# Altium schematic symbol library PROC101D_SCH_With_Design_Updates..Notes_V1.0_Library.SchLib: 131 symbols
Pins are listed as number, name and electrical type; pins without a type are passive.

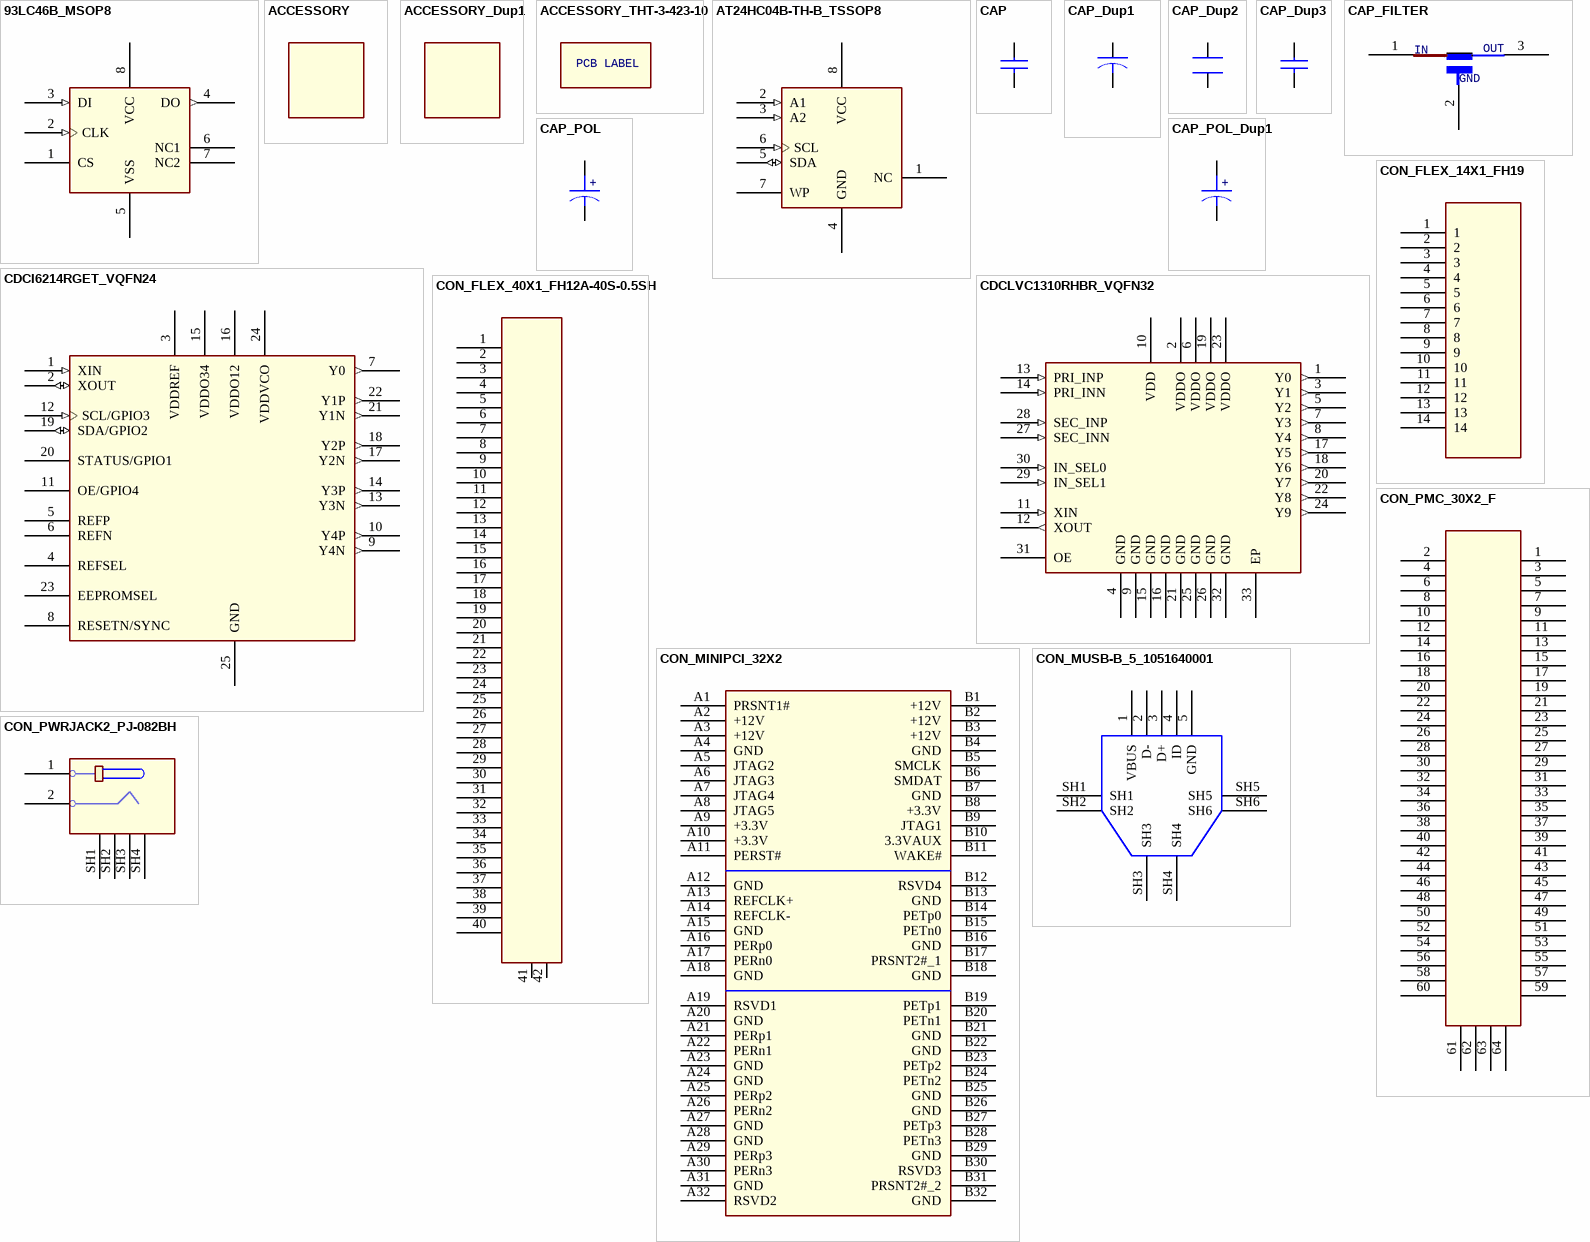
[diagram p0: symbols 93LC46B_MSOP8 to CON_PWRJACK2_PJ-082BH]

## 93LC46B_MSOP8
designator U?
pins: 1 CS, 2 CLK (in), 3 DI (in), 4 DO (out), 5 VSS (power), 6 NC1, 7 NC2, 8 VCC (power)

## ACCESSORY
designator ACC?

## ACCESSORY_Dup1
designator ACC?

## ACCESSORY_THT-3-423-10
designator LBL?
text: PCB LABEL

## AT24HC04B-TH-B_TSSOP8
designator U?
pins: 1 NC, 2 A1 (in), 3 A2 (in), 4 GND (power), 5 SDA (io), 6 SCL (in), 7 WP, 8 VCC (power)

## CAP
designator C?
pins: 1, 2

## CAP_Dup1
designator C?
pins: 1, 2

## CAP_Dup2
designator C?
footprint CAP0402N
pins: 1, 2

## CAP_Dup3
designator C?
pins: 1, 2

## CAP_FILTER
designator FL?
pins: 1 IN, 2 GND1 (power), 3 OUT
text: GND

## CAP_POL
designator C?
pins: 1, 2
text: +

## CAP_POL_Dup1
designator C?
pins: 1, 2
text: +

## CDCI6214RGET_VQFN24
designator U?
pins: 1 XIN (in), 2 XOUT (io), 3 VDDREF (power), 4 REFSEL, 5 REFP, 6 REFN, 7 Y0 (out), 8 RESETN/SYNC, 9 Y4N (out), 10 Y4P (out), 11 OE/GPIO4, 12 SCL/GPIO3 (in), 13 Y3N (out), 14 Y3P (out), 15 VDDO34 (power), 16 VDDO12 (power), 17 Y2N (out), 18 Y2P (out), 19 SDA/GPIO2 (io), 20 STATUS/GPIO1, 21 Y1N (out), 22 Y1P (out), 23 EEPROMSEL, 24 VDDVCO (power), 25 GND (power)

## CDCLVC1310RHBR_VQFN32
designator U?
pins: 1 Y0 (out), 2 VDDO (power), 3 Y1 (out), 4 GND (power), 5 Y2 (out), 6 VDDO (power), 7 Y3 (out), 8 Y4 (out), 9 GND (power), 10 VDD (power), 11 XIN (in), 12 XOUT (out), 13 PRI_INP (in), 14 PRI_INN (in), 15 GND (power), 16 GND (power), 17 Y5 (out), 18 Y6 (out), 19 VDDO (power), 20 Y7 (out), 21 GND (power), 22 Y8 (out), 23 VDDO (power), 24 Y9 (out), 25 GND (power), 26 GND (power), 27 SEC_INN (in), 28 SEC_INP (in), 29 IN_SEL1 (in), 30 IN_SEL0 (in), 31 OE, 32 GND (power), 33 EP (power)

## CON_FLEX_14X1_FH19
designator J?
pins: 1, 2, 3, 4, 5, 6, 7, 8, 9, 10, 11, 12, 13, 14

## CON_FLEX_40X1_FH12A-40S-0.5SH
designator J?
pins: 1, 2, 3, 4, 5, 6, 7, 8, 9, 10, 11, 12, 13, 14, 15, 16, 17, 18, 19, 20, 21, 22, 23, 24, 25, 26, 27, 28, 29, 30, 31, 32, 33, 34, 35, 36, 37, 38, 39, 40, 41, 42

## CON_MINIPCI_32X2
designator J?
pins: A1 PRSNT1#, A2 +12V (power), A3 +12V (power), A4 GND (power), A5 JTAG2, A6 JTAG3, A7 JTAG4, A8 JTAG5, A9 +3.3V (power), A10 +3.3V (power), A11 PERST#, A12 GND (power), A13 REFCLK+, A14 REFCLK-, A15 GND (power), A16 PERp0, A17 PERn0, A18 GND (power), A19 RSVD1, A20 GND (power), A21 PERp1, A22 PERn1, A23 GND (power), A24 GND (power), A25 PERp2, A26 PERn2, A27 GND (power), A28 GND (power), A29 PERp3, A30 PERn3, A31 GND (power), A32 RSVD2, B1 +12V (power), B2 +12V (power), B3 +12V (power), B4 GND (power), B5 SMCLK, B6 SMDAT, B7 GND (power), B8 +3.3V (power), B9 JTAG1, B10 3.3VAUX, B11 WAKE#, B12 RSVD4, B13 GND (power), B14 PETp0, B15 PETn0, B16 GND (power), B17 PRSNT2#_1, B18 GND (power), B19 PETp1, B20 PETn1, B21 GND (power), B22 GND (power), B23 PETp2, B24 PETn2, B25 GND (power), B26 GND (power), B27 PETp3, B28 PETn3, B29 GND (power), B30 RSVD3, B31 PRSNT2#_2, B32 GND (power)

## CON_MUSB-B_5_1051640001
designator J?
pins: 1 VBUS, 2 D-, 3 D+, 4 ID, 5 GND (power), SH1, SH2, SH3, SH4, SH5, SH6

## CON_PMC_30X2_F
designator J?
pins: 1, 2, 3, 4, 5, 6, 7, 8, 9, 10, 11, 12, 13, 14, 15, 16, 17, 18, 19, 20, 21, 22, 23, 24, 25, 26, 27, 28, 29, 30, 31, 32, 33, 34, 35, 36, 37, 38, 39, 40, 41, 42, 43, 44, 45, 46, 47, 48, 49, 50, 51, 52, 53, 54, 55, 56, 57, 58, 59, 60, 61, 62, 63, 64

## CON_PWRJACK2_PJ-082BH
designator J?
pins: 1, 2, SH1, SH2, SH3, SH4

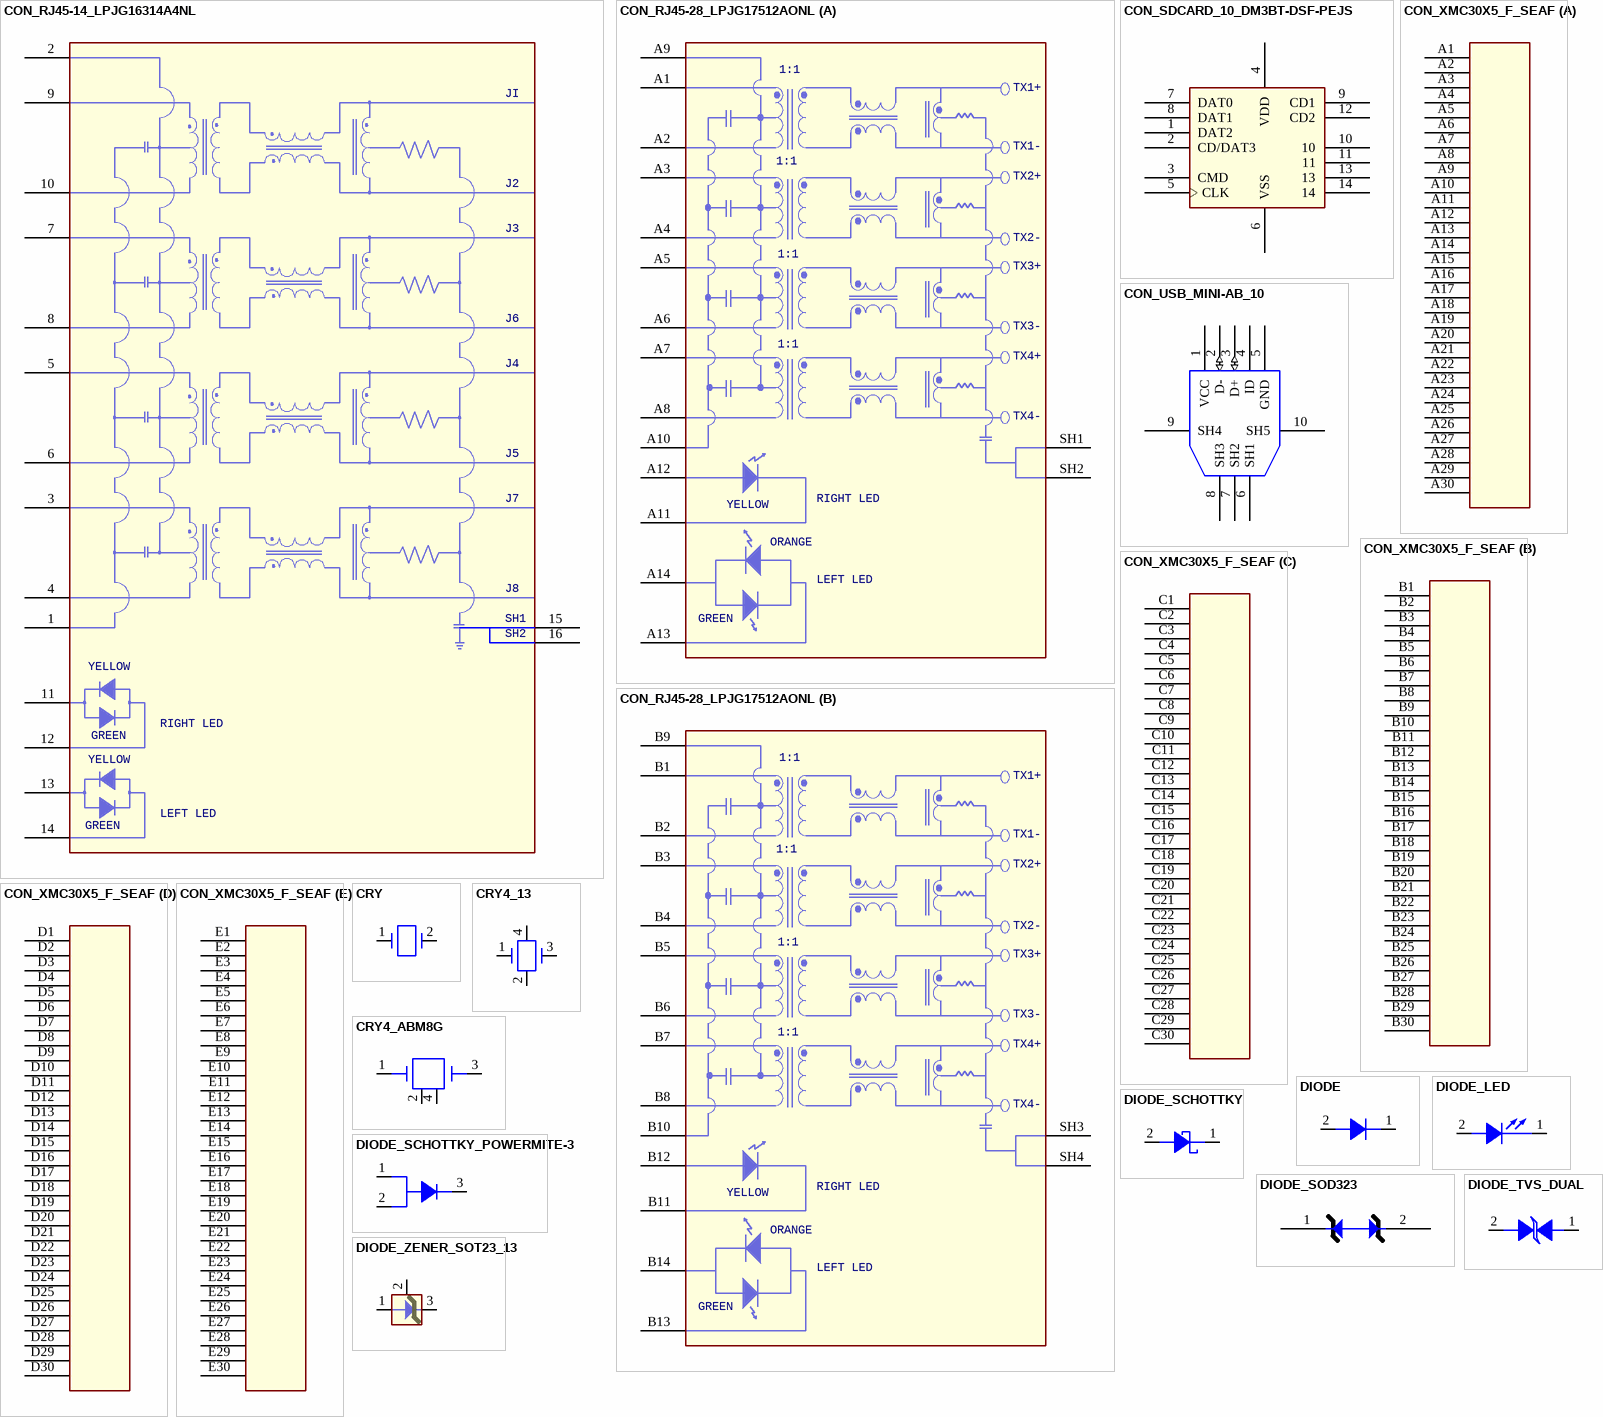
[diagram p1: symbols CON_RJ45-14_LPJG16314A4NL to DIODE_ZENER_SOT23_13]

## CON_RJ45-14_LPJG16314A4NL
designator J?
pins: 1 CH-GND, 2 VCC, 3 MX3+, 4 MX3-, 5 MX2+, 6 MX2-, 7 MX1+, 8 MX1-, 9 MX0+, 10 MX0-, 11, 12, 13, 14, 15 SH1, 16 SH2
text: JI; J2; J3; J6; J4; J5; J7; J8; YELLOW; RIGHT LED; GREEN; LEFT LED

## CON_RJ45-28_LPJG17512AONL
designator J?
part A pins: A1 TD1+_1, A2 TD1-_1, A3 TD2+_1, A4 TD2-_1, A5 TD3+_1, A6 TD3-_1, A7 TD4+_1, A8 TD4-_1, A9 VCC (power), A10 GND (power), A11, A12, A13, A14, SH1, SH2
part B pins: B1 TD1+_2, B2 TD1-_2, B3 TD2+_2, B4 TD2-_2, B5 TD3+_2, B6 TD3-_2, B7 TD4+_2, B8 TD4-_2, B9 VCC (power), B10 GND (power), B11, B12, B13, B14, SH3, SH4
part A text: 1:1; TX1+; TX1-; TX2+; TX2-; TX3+; TX3-; TX4+; TX4-; RIGHT LED; YELLOW; ORANGE; LEFT LED; GREEN
part B text: 1:1; TX1+; TX1-; TX2+; TX2-; TX3+; TX3-; TX4+; TX4-; RIGHT LED; YELLOW; ORANGE; LEFT LED; GREEN

## CON_SDCARD_10_DM3BT-DSF-PEJS
designator J?
pins: 1 DAT2, 2 CD/DAT3, 3 CMD, 4 VDD (power), 5 CLK, 6 VSS (power), 7 DAT0, 8 DAT1, 9 CD1, 10, 11, 12 CD2, 13, 14

## CON_USB_MINI-AB_10
designator J?
pins: 1 VCC (power), 2 D- (io), 3 D+ (io), 4 ID, 5 GND (power), 6 SH1 (power), 7 SH2 (power), 8 SH3 (power), 9 SH4 (power), 10 SH5 (power)

## CON_XMC30X5_F_SEAF
designator J?
part A pins: A1, A2, A3, A4, A5, A6, A7, A8, A9, A10, A11, A12, A13, A14, A15, A16, A17, A18, A19, A20, A21, A22, A23, A24, A25, A26, A27, A28, A29, A30
part B pins: B1, B2, B3, B4, B5, B6, B7, B8, B9, B10, B11, B12, B13, B14, B15, B16, B17, B18, B19, B20, B21, B22, B23, B24, B25, B26, B27, B28, B29, B30
part C pins: C1, C2, C3, C4, C5, C6, C7, C8, C9, C10, C11, C12, C13, C14, C15, C16, C17, C18, C19, C20, C21, C22, C23, C24, C25, C26, C27, C28, C29, C30
part D pins: D1, D2, D3, D4, D5, D6, D7, D8, D9, D10, D11, D12, D13, D14, D15, D16, D17, D18, D19, D20, D21, D22, D23, D24, D25, D26, D27, D28, D29, D30
part E pins: E1, E2, E3, E4, E5, E6, E7, E8, E9, E10, E11, E12, E13, E14, E15, E16, E17, E18, E19, E20, E21, E22, E23, E24, E25, E26, E27, E28, E29, E30

## CRY
designator Y?
pins: 1, 2

## CRY4_13
designator Y?
pins: 1, 2, 3, 4

## CRY4_ABM8G
designator Y?
pins: 1, 2 GND1 (power), 3, 4 GND2 (power)

## DIODE
designator D?
pins: 1 K, 2 A

## DIODE_LED
designator LD?
pins: 1 CATHODE, 2 ANODE

## DIODE_SCHOTTKY
designator D?
pins: 1 CATHODE, 2 ANODE

## DIODE_SCHOTTKY_POWERMITE-3
designator D?
pins: 1 A1, 2 A2, 3 K

## DIODE_SOD323
designator D?
pins: 1, 2

## DIODE_TVS_DUAL
designator D?
pins: 1 CATHODE, 2 ANODE

## DIODE_ZENER_SOT23_13
designator D?
pins: 1 A, 2 NC, 3 C

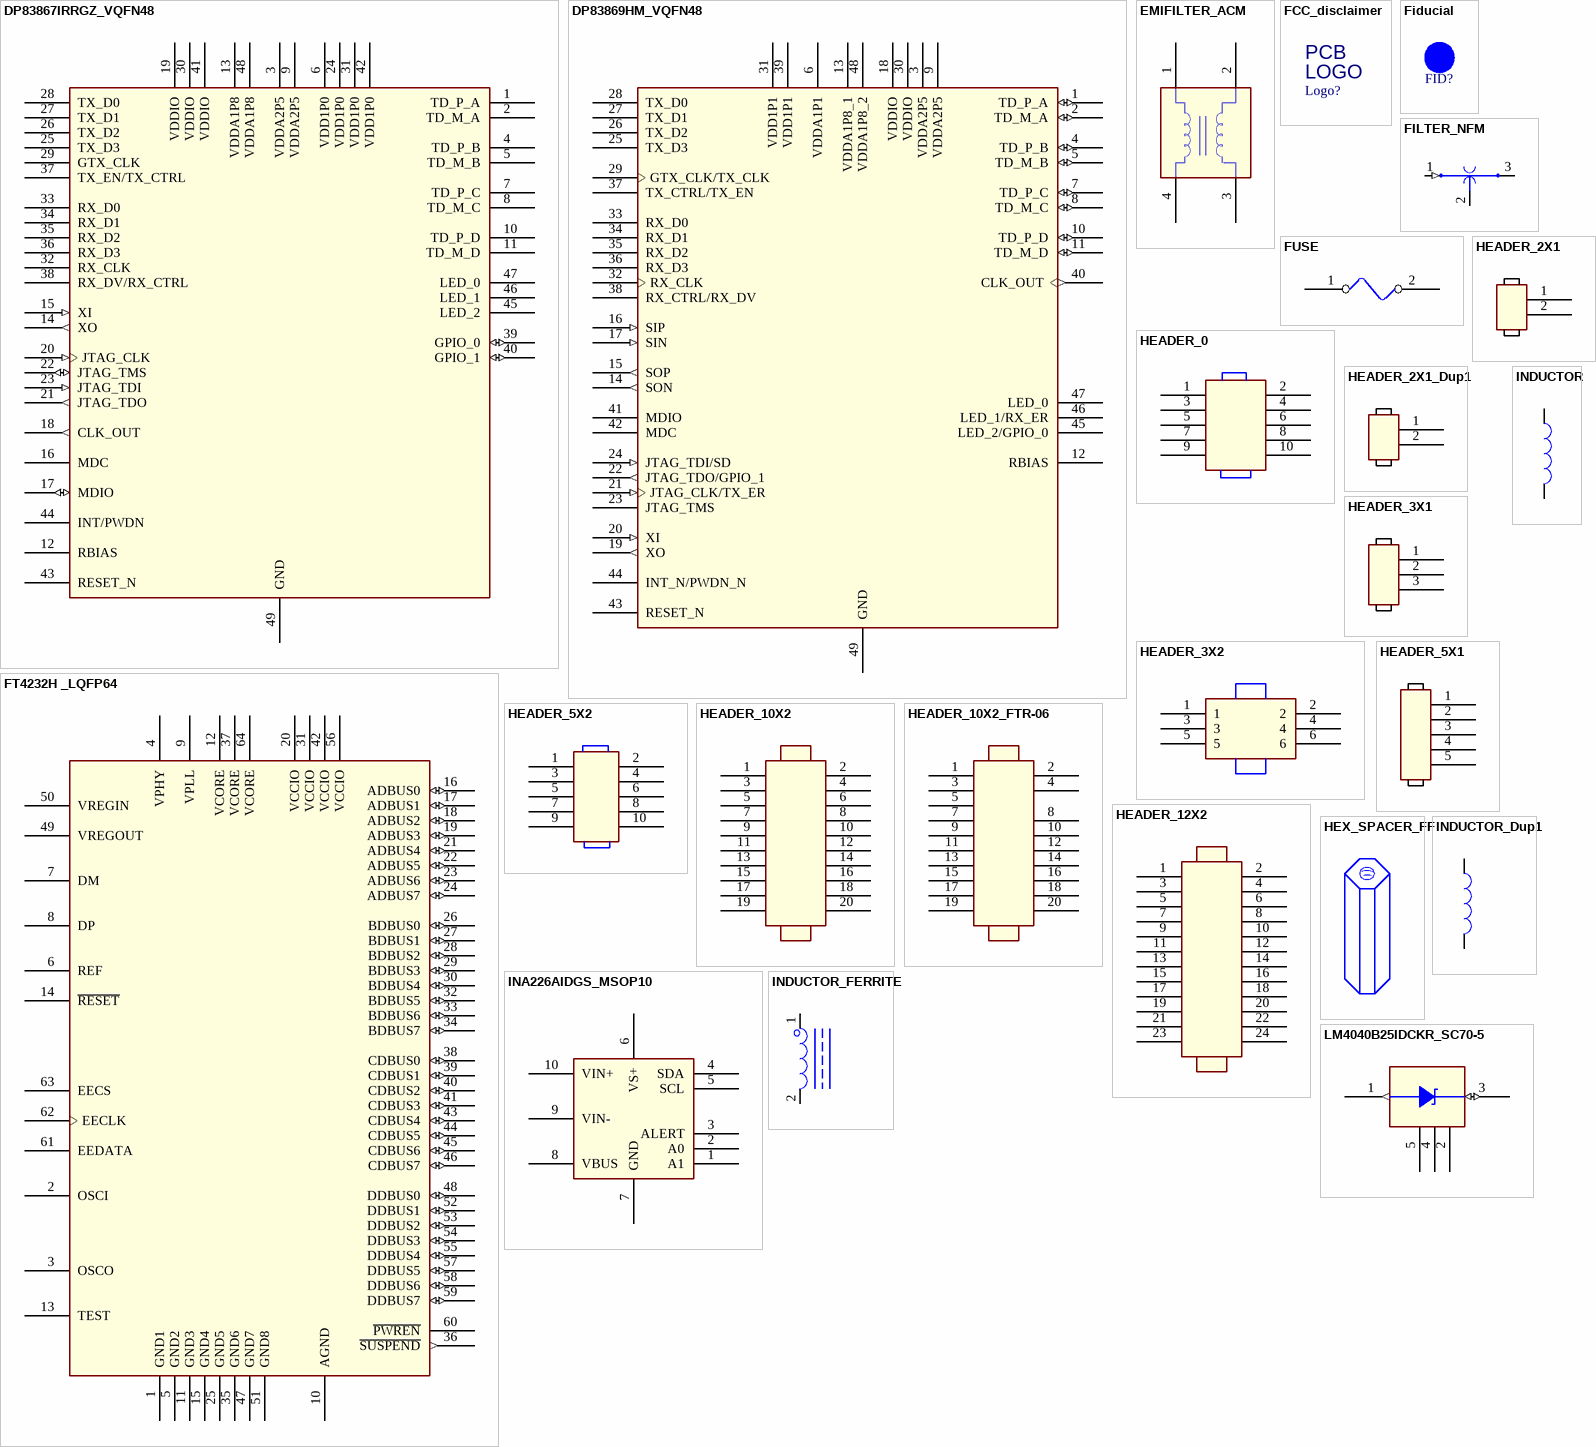
[diagram p2: symbols DP83867IRRGZ_VQFN48 to LM4040B25IDCKR_SC70-5]

## DP83867IRRGZ_VQFN48
designator U?
pins: 1 TD_P_A, 2 TD_M_A, 3 VDDA2P5 (power), 4 TD_P_B, 5 TD_M_B, 6 VDD1P0 (power), 7 TD_P_C, 8 TD_M_C, 9 VDDA2P5 (power), 10 TD_P_D, 11 TD_M_D, 12 RBIAS, 13 VDDA1P8 (power), 14 XO (out), 15 XI (in), 16 MDC, 17 MDIO (io), 18 CLK_OUT (out), 19 VDDIO (power), 20 JTAG_CLK (in), 21 JTAG_TDO (out), 22 JTAG_TMS (io), 23 JTAG_TDI (in), 24 VDD1P0 (power), 25 TX_D3, 26 TX_D2, 27 TX_D1, 28 TX_D0, 29 GTX_CLK, 30 VDDIO (power), 31 VDD1P0 (power), 32 RX_CLK, 33 RX_D0, 34 RX_D1, 35 RX_D2, 36 RX_D3, 37 TX_EN/TX_CTRL, 38 RX_DV/RX_CTRL, 39 GPIO_0 (io), 40 GPIO_1 (io), 41 VDDIO (power), 42 VDD1P0 (power), 43 RESET_N, 44 INT/PWDN, 45 LED_2, 46 LED_1, 47 LED_0, 48 VDDA1P8 (power), 49 GND (power)

## DP83869HM_VQFN48
designator U?
pins: 1 TD_P_A (io), 2 TD_M_A (io), 3 VDDA2P5 (power), 4 TD_P_B (io), 5 TD_M_B (io), 6 VDDA1P1 (power), 7 TD_P_C (io), 8 TD_M_C (io), 9 VDDA2P5 (power), 10 TD_P_D (io), 11 TD_M_D (io), 12 RBIAS, 13 VDDA1P8_1 (power), 14 SON (out), 15 SOP (out), 16 SIP (in), 17 SIN (in), 18 VDDIO (power), 19 XO (out), 20 XI (in), 21 JTAG_CLK/TX_ER (in), 22 JTAG_TDO/GPIO_1 (out), 23 JTAG_TMS, 24 JTAG_TDI/SD (in), 25 TX_D3, 26 TX_D2, 27 TX_D1, 28 TX_D0, 29 GTX_CLK/TX_CLK, 30 VDDIO (power), 31 VDD1P1 (power), 32 RX_CLK, 33 RX_D0, 34 RX_D1, 35 RX_D2, 36 RX_D3, 37 TX_CTRL/TX_EN, 38 RX_CTRL/RX_DV, 39 VDD1P1 (power), 40 CLK_OUT (out), 41 MDIO, 42 MDC, 43 RESET_N, 44 INT_N/PWDN_N, 45 LED_2/GPIO_0, 46 LED_1/RX_ER, 47 LED_0, 48 VDDA1P8_2 (power), 49 GND (power)

## EMIFILTER_ACM
designator FL?
pins: 1, 2, 3, 4

## FCC_disclaimer
designator Logo?  (value not drawn)
footprint FCC_disclaimer
text: PCB; LOGO

## Fiducial
designator FID?  (value not drawn)
footprint Fiducial10-20

## FILTER_NFM
designator FL?
pins: 1 INPUT (in), 2 GND (power), 3 OUTPUT

## FT4232H _LQFP64
designator U?
footprint LQF64
pins: 1 GND1 (power), 2 OSCI, 3 OSCO, 4 VPHY (power), 5 GND2 (power), 6 REF, 7 DM, 8 DP, 9 VPLL (power), 10 AGND (power), 11 GND3 (power), 12 VCORE (power), 13 TEST, 14 ~{RESET}, 15 GND4 (power), 16 ADBUS0 (io), 17 ADBUS1 (io), 18 ADBUS2 (io), 19 ADBUS3 (io), 20 VCCIO (power), 21 ADBUS4 (io), 22 ADBUS5 (io), 23 ADBUS6 (io), 24 ADBUS7 (io), 25 GND5 (power), 26 BDBUS0 (io), 27 BDBUS1 (io), 28 BDBUS2 (io), 29 BDBUS3 (io), 30 BDBUS4 (io), 31 VCCIO (power), 32 BDBUS5 (io), 33 BDBUS6 (io), 34 BDBUS7 (io), 35 GND6 (power), 36 ~{SUSPEND} (out), 37 VCORE (power), 38 CDBUS0 (io), 39 CDBUS1 (io), 40 CDBUS2 (io), 41 CDBUS3 (io), 42 VCCIO (power), 43 CDBUS4 (io), 44 CDBUS5 (io), 45 CDBUS6 (io), 46 CDBUS7 (io), 47 GND7 (power), 48 DDBUS0 (io), 49 VREGOUT (power), 50 VREGIN (power), 51 GND8 (power), 52 DDBUS1 (io), 53 DDBUS2 (io), 54 DDBUS3 (io), 55 DDBUS4 (io), 56 VCCIO (power), 57 DDBUS5 (io), 58 DDBUS6 (io), 59 DDBUS7 (io), 60 ~{PWREN}, 61 EEDATA, 62 EECLK, 63 EECS, 64 VCORE (power)

## FUSE
designator F?
pins: 1, 2

## HEADER_0
designator J?
pins: 1, 2, 3, 4, 5, 6, 7, 8, 9, 10

## HEADER_2X1
designator J?
pins: 1, 2

## HEADER_2X1_Dup1
designator J?
pins: 1, 2

## HEADER_3X1
designator J?
pins: 1, 2, 3

## HEADER_3X2
designator J?
OCT Option: G
footprint CON_3X2_SM_2MM
pins: 1, 2, 3, 4, 5, 6

## HEADER_5X1
designator J?
pins: 1, 2, 3, 4, 5

## HEADER_5X2
designator J?
pins: 1, 2, 3, 4, 5, 6, 7, 8, 9, 10

## HEADER_10X2
designator J?
pins: 1, 2, 3, 4, 5, 6, 7, 8, 9, 10, 11, 12, 13, 14, 15, 16, 17, 18, 19, 20

## HEADER_10X2_FTR-06
designator J?
pins: 1, 2, 3, 4, 5, 7, 8, 9, 10, 11, 12, 13, 14, 15, 16, 17, 18, 19, 20

## HEADER_12X2
designator J?
pins: 1, 2, 3, 4, 5, 6, 7, 8, 9, 10, 11, 12, 13, 14, 15, 16, 17, 18, 19, 20, 21, 22, 23, 24

## HEX_SPACER_FF
designator MH?

## INA226AIDGS_MSOP10
designator U?
pins: 1 A1, 2 A0, 3 ALERT, 4 SDA, 5 SCL, 6 VS+ (power), 7 GND (power), 8 VBUS, 9 VIN-, 10 VIN+

## INDUCTOR
designator L?
pins: 1, 2

## INDUCTOR_Dup1
designator L?
pins: 1, 2

## INDUCTOR_FERRITE
designator FB?
pins: 1, 2

## LM4040B25IDCKR_SC70-5
designator U?
pins: 1 ANODE (out), 2 NC1, 3 CATHODE (io), 4 NC2, 5 NC3

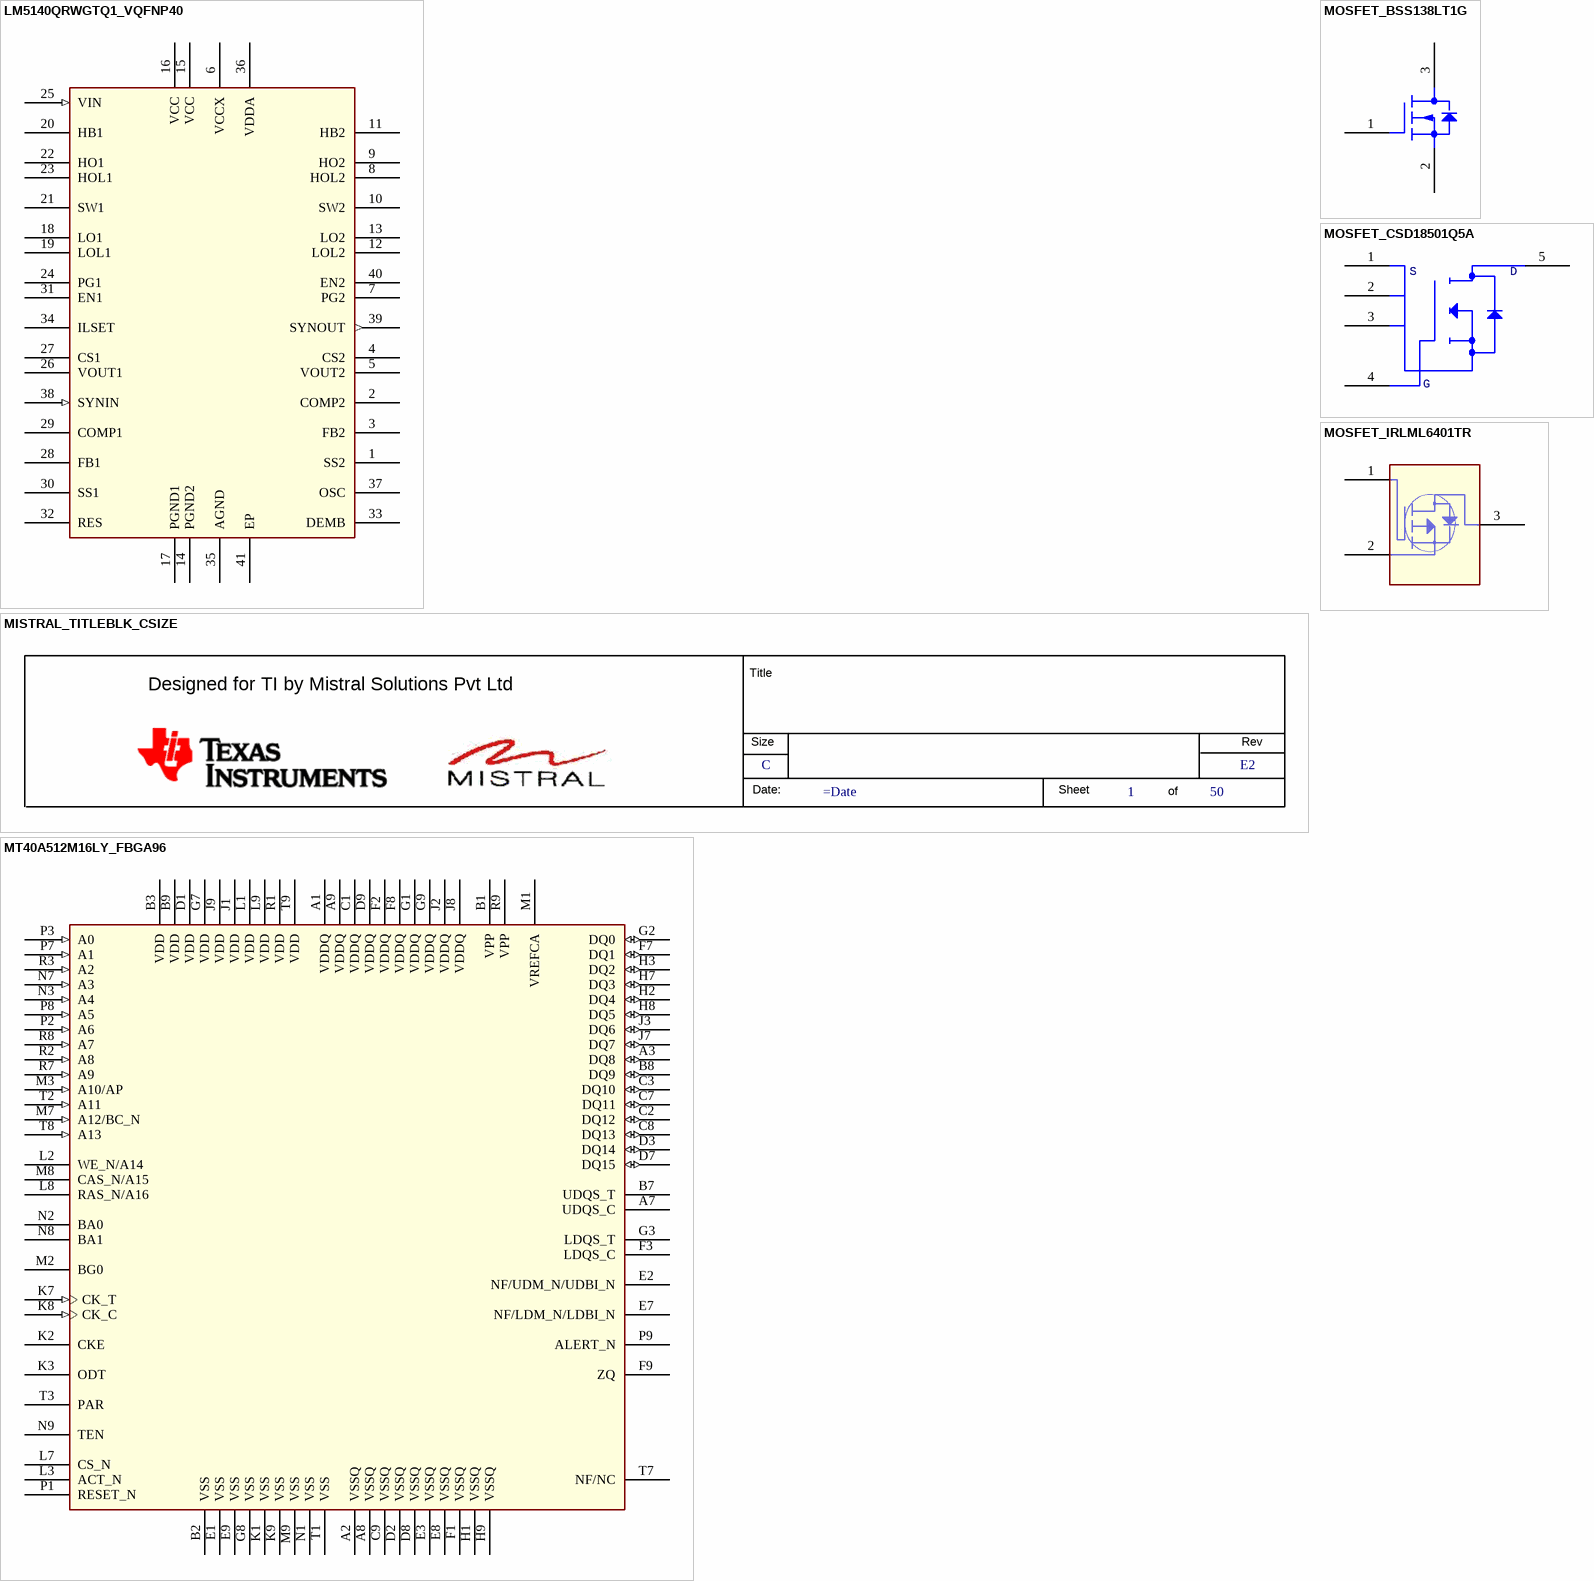
[diagram p3: symbols LM5140QRWGTQ1_VQFNP40 to MT40A512M16LY_FBGA96]

## LM5140QRWGTQ1_VQFNP40
designator U?
footprint TBD
pins: 1 SS2, 2 COMP2, 3 FB2, 4 CS2, 5 VOUT2 (power), 6 VCCX (power), 7 PG2, 8 HOL2, 9 HO2, 10 SW2, 11 HB2, 12 LOL2, 13 LO2, 14 PGND2 (power), 15 VCC (power), 16 VCC (power), 17 PGND1 (power), 18 LO1, 19 LOL1, 20 HB1, 21 SW1, 22 HO1, 23 HOL1, 24 PG1, 25 VIN (in), 26 VOUT1 (power), 27 CS1, 28 FB1, 29 COMP1, 30 SS1, 31 EN1, 32 RES, 33 DEMB, 34 ILSET, 35 AGND (power), 36 VDDA (power), 37 OSC, 38 SYNIN (in), 39 SYNOUT (out), 40 EN2, 41 EP (power)

## MISTRAL_TITLEBLK_CSIZE
designator *  RevCode: E2  Page Size: C  Page Number: 1  Page Count: 50  (hidden comment: *)  (graphical)
Issue: 1.0; Page Create Date: March  8, 1995; Page Modify Date: =Date
text: Title; Designed for TI by Mistral Solutions Pvt Ltd; Size; Rev; Date:; Sheet; of

## MOSFET_BSS138LT1G
designator Q?
pins: 1 G, 2 S, 3 D

## MOSFET_CSD18501Q5A
designator U?
pins: 1 S1, 2 S2, 3 S3, 4 G, 5 D
text: S

## MOSFET_IRLML6401TR
designator Q?
pins: 1 G, 2 S, 3 D

## MT40A512M16LY_FBGA96
designator U?
pins: A1 VDDQ (power), A2 VSSQ (power), A3 DQ8 (io), A7 UDQS_C, A8 VSSQ (power), A9 VDDQ (power), B1 VPP (power), B2 VSS (power), B3 VDD (power), B7 UDQS_T, B8 DQ9 (io), B9 VDD (power), C1 VDDQ (power), C2 DQ12 (io), C3 DQ10 (io), C7 DQ11 (io), C8 DQ13 (io), C9 VSSQ (power), D1 VDD (power), D2 VSSQ (power), D3 DQ14 (io), D7 DQ15 (io), D8 VSSQ (power), D9 VDDQ (power), E1 VSS (power), E2 NF/UDM_N/UDBI_N, E3 VSSQ (power), E7 NF/LDM_N/LDBI_N, E8 VSSQ (power), E9 VSS (power), F1 VSSQ (power), F2 VDDQ (power), F3 LDQS_C, F7 DQ1 (io), F8 VDDQ (power), F9 ZQ, G1 VDDQ (power), G2 DQ0 (io), G3 LDQS_T, G7 VDD (power), G8 VSS (power), G9 VDDQ (power), H1 VSSQ (power), H2 DQ4 (io), H3 DQ2 (io), H7 DQ3 (io), H8 DQ5 (io), H9 VSSQ (power), J1 VDD (power), J2 VDDQ (power), J3 DQ6 (io), J7 DQ7 (io), J8 VDDQ (power), J9 VDD (power), K1 VSS (power), K2 CKE, K3 ODT, K7 CK_T (in), K8 CK_C (in), K9 VSS (power), L1 VDD (power), L2 WE_N/A14, L3 ACT_N, L7 CS_N, L8 RAS_N/A16, L9 VDD (power), M1 VREFCA (power), M2 BG0, M3 A10/AP (in), M7 A12/BC_N (in), M8 CAS_N/A15, M9 VSS (power), N1 VSS (power), N2 BA0, N3 A4 (in), N7 A3 (in), N8 BA1, N9 TEN, P1 RESET_N, P2 A6 (in), P3 A0 (in), P7 A1 (in), P8 A5 (in), P9 ALERT_N, R1 VDD (power), R2 A8 (in), R3 A2 (in), R7 A9 (in), R8 A7 (in), R9 VPP (power), T1 VSS (power), T2 A11 (in), T3 PAR, T7 NF/NC, T8 A13 (in), T9 VDD (power)

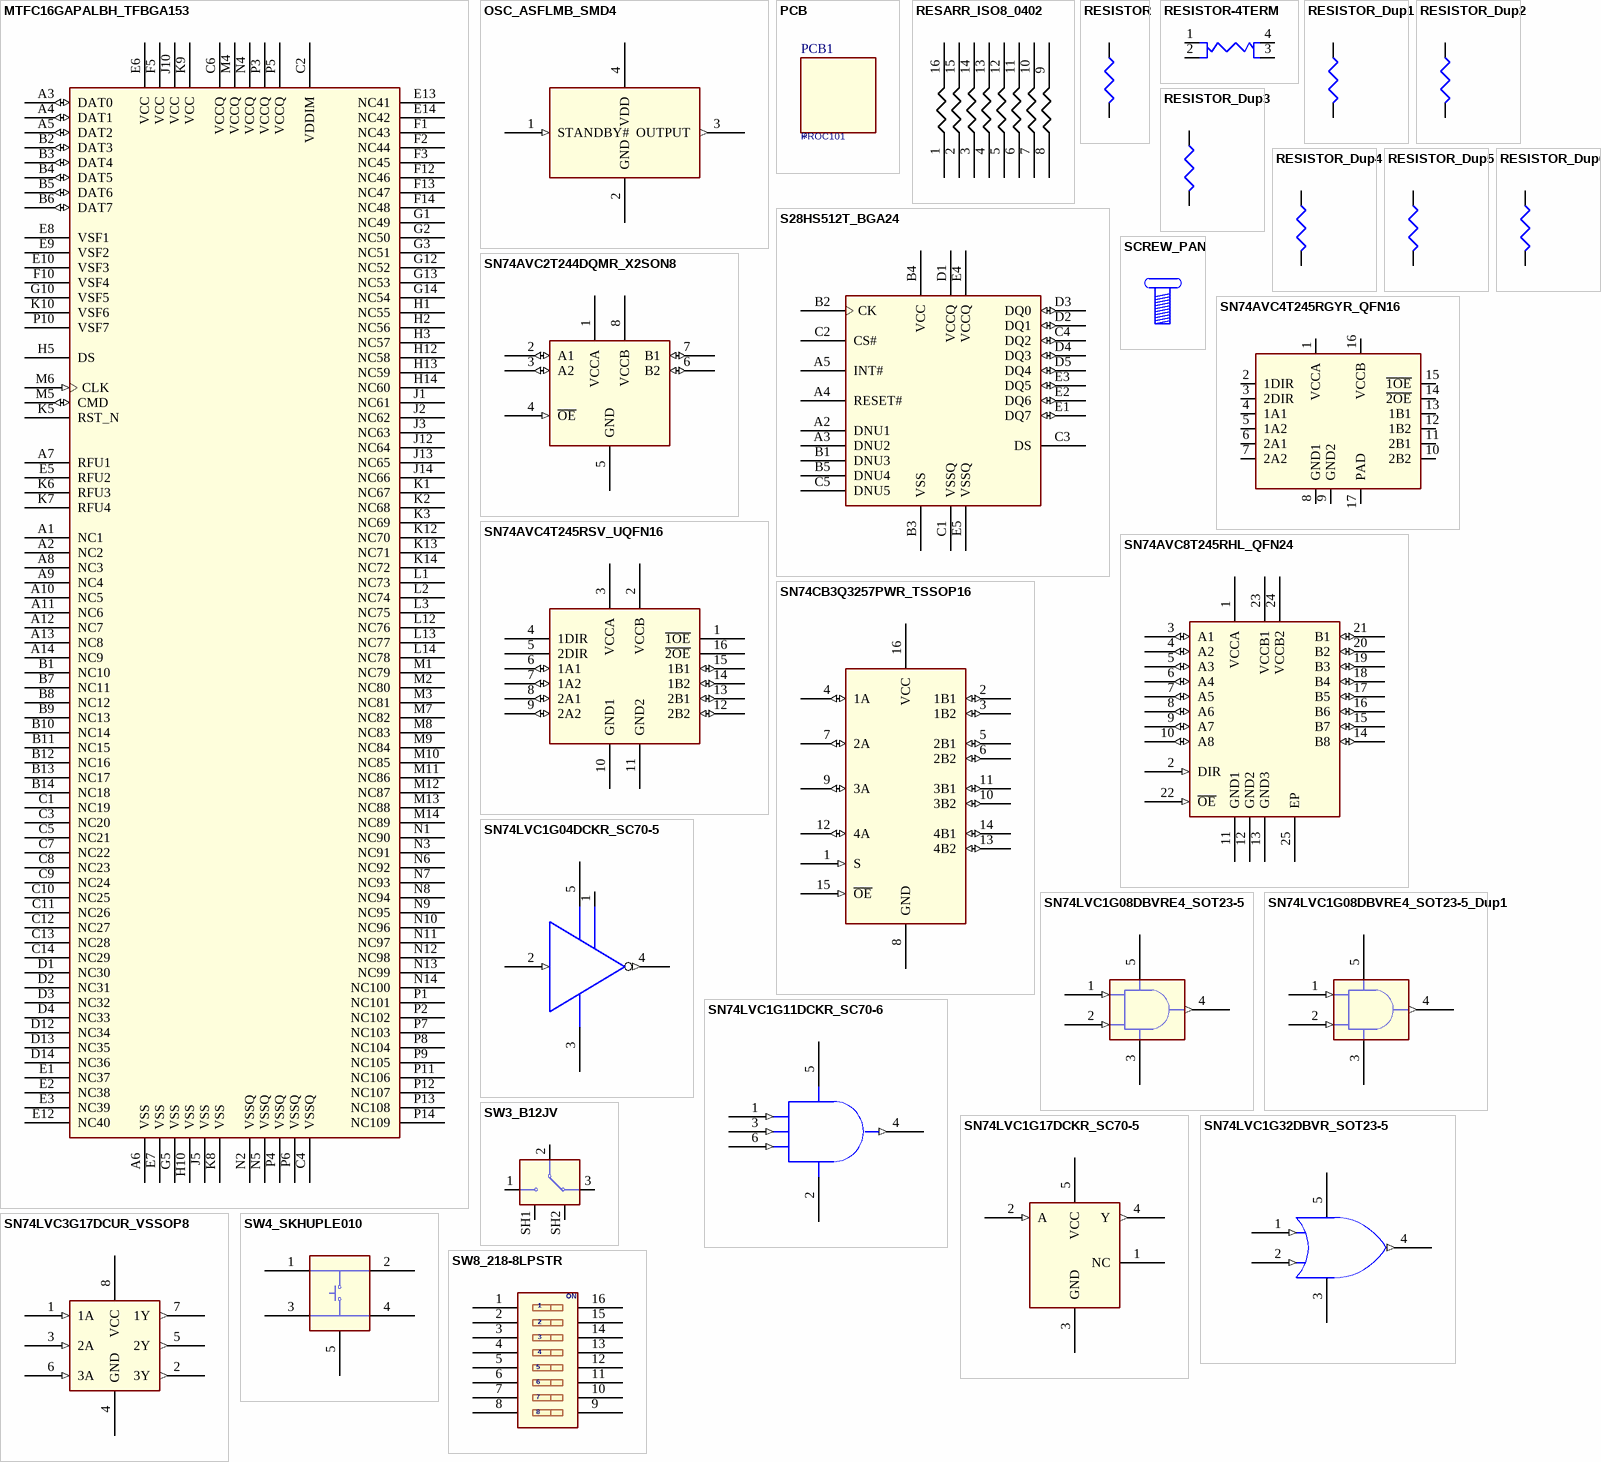
[diagram p4: symbols MTFC16GAPALBH_TFBGA153 to SW8_218-8LPSTR]

## MTFC16GAPALBH_TFBGA153
designator U?
pins: A1 NC1, A2 NC2, A3 DAT0 (io), A4 DAT1 (io), A5 DAT2 (io), A6 VSS (power), A7 RFU1, A8 NC3, A9 NC4, A10 NC5, A11 NC6, A12 NC7, A13 NC8, A14 NC9, B1 NC10, B2 DAT3 (io), B3 DAT4 (io), B4 DAT5 (io), B5 DAT6 (io), B6 DAT7 (io), B7 NC11, B8 NC12, B9 NC13, B10 NC14, B11 NC15, B12 NC16, B13 NC17, B14 NC18, C1 NC19, C2 VDDIM (power), C3 NC20, C4 VSSQ (power), C5 NC21, C6 VCCQ (power), C7 NC22, C8 NC23, C9 NC24, C10 NC25, C11 NC26, C12 NC27, C13 NC28, C14 NC29, D1 NC30, D2 NC31, D3 NC32, D4 NC33, D12 NC34, D13 NC35, D14 NC36, E1 NC37, E2 NC38, E3 NC39, E5 RFU2, E6 VCC (power), E7 VSS (power), E8 VSF1, E9 VSF2, E10 VSF3, E12 NC40, E13 NC41, E14 NC42, F1 NC43, F2 NC44, F3 NC45, F5 VCC (power), F10 VSF4, F12 NC46, F13 NC47, F14 NC48, G1 NC49, G2 NC50, G3 NC51, G5 VSS (power), G10 VSF5, G12 NC52, G13 NC53, G14 NC54, H1 NC55, H2 NC56, H3 NC57, H5 DS, H10 VSS (power), H12 NC58, H13 NC59, H14 NC60, J1 NC61, J2 NC62, J3 NC63, J5 VSS (power), J10 VCC (power), J12 NC64, J13 NC65, J14 NC66, K1 NC67, K2 NC68, K3 NC69, K5 RST_N, K6 RFU3, K7 RFU4, K8 VSS (power), K9 VCC (power), K10 VSF6, K12 NC70, K13 NC71, K14 NC72, L1 NC73, L2 NC74, L3 NC75, L12 NC76, L13 NC77, L14 NC78, M1 NC79, M2 NC80, M3 NC81, M4 VCCQ (power), M5 CMD (io), M6 CLK (in), M7 NC82, M8 NC83, M9 NC84, M10 NC85, M11 NC86, M12 NC87, M13 NC88, M14 NC89, N1 NC90, N2 VSSQ (power), N3 NC91, N4 VCCQ (power), N5 VSSQ (power), N6 NC92, N7 NC93, N8 NC94, N9 NC95, N10 NC96, N11 NC97, N12 NC98, N13 NC99, N14 NC100, P1 NC101, P2 NC102, P3 VCCQ (power), P4 VSSQ (power), P5 VCCQ (power), P6 VSSQ (power), P7 NC103, P8 NC104, P9 NC105, P10 VSF7, P11 NC106, P12 NC107, P13 NC108, P14 NC109

## OSC_ASFLMB_SMD4
designator U?
pins: 1 STANDBY# (in), 2 GND (power), 3 OUTPUT (out), 4 VDD (power)

## PCB
designator *, comment PCB1  Mfr_part_number: PROC101
Part_type: ACCESSORIES; Mistral Part No: FY201506000101

## RESARR_ISO8_0402
designator RA?
pins: 1, 2, 3, 4, 5, 6, 7, 8, 9, 10, 11, 12, 13, 14, 15, 16

## RESISTOR
designator R?
pins: 1, 2

## RESISTOR-4TERM
designator R?
pins: 1, 2, 3, 4

## RESISTOR_Dup1
designator R?
pins: 1, 2

## RESISTOR_Dup2
designator R?
footprint RES0402N
pins: 1, 2

## RESISTOR_Dup3
designator R?
footprint RES0402N
pins: 1, 2

## RESISTOR_Dup4
designator R?
pins: 1, 2

## RESISTOR_Dup5
designator R?
pins: 1, 2

## RESISTOR_Dup6
designator R?
pins: 1, 2

## S28HS512T_BGA24
designator U?
pins: A2 DNU1, A3 DNU2, A4 RESET#, A5 INT#, B1 DNU3, B2 CK, B3 VSS (power), B4 VCC (power), B5 DNU4, C1 VSSQ (power), C2 CS#, C3 DS, C4 DQ2 (io), C5 DNU5, D1 VCCQ (power), D2 DQ1 (io), D3 DQ0 (io), D4 DQ3 (io), D5 DQ4 (io), E1 DQ7 (io), E2 DQ6 (io), E3 DQ5 (io), E4 VCCQ (power), E5 VSSQ (power)

## SCREW_PAN
designator MH?

## SN74AVC2T244DQMR_X2SON8
designator U?
pins: 1 VCCA (power), 2 A1 (io), 3 A2 (io), 4 ~{OE} (in), 5 GND (power), 6 B2 (io), 7 B1 (io), 8 VCCB (power)

## SN74AVC4T245RGYR_QFN16
designator U?
pins: 1 VCCA (power), 2 1DIR, 3 2DIR, 4 1A1 (io), 5 1A2 (io), 6 2A1 (io), 7 2A2 (io), 8 GND1 (power), 9 GND2 (power), 10 2B2 (io), 11 2B1 (io), 12 1B2 (io), 13 1B1 (io), 14 ~{2OE}, 15 ~{1OE}, 16 VCCB (power), 17 PAD (power)

## SN74AVC4T245RSV_UQFN16
designator U?
pins: 1 ~{1OE}, 2 VCCB (power), 3 VCCA (power), 4 1DIR, 5 2DIR, 6 1A1 (io), 7 1A2 (io), 8 2A1 (io), 9 2A2 (io), 10 GND1 (power), 11 GND2 (power), 12 2B2 (io), 13 2B1 (io), 14 1B2 (io), 15 1B1 (io), 16 ~{2OE}

## SN74AVC8T245RHL_QFN24
designator U?
pins: 1 VCCA (power), 2 DIR (in), 3 A1 (io), 4 A2 (io), 5 A3 (io), 6 A4 (io), 7 A5 (io), 8 A6 (io), 9 A7 (io), 10 A8 (io), 11 GND1 (power), 12 GND2 (power), 13 GND3 (power), 14 B8 (io), 15 B7 (io), 16 B6 (io), 17 B5 (io), 18 B4 (io), 19 B3 (io), 20 B2 (io), 21 B1 (io), 22 ~{OE} (in), 23 VCCB1 (power), 24 VCCB2 (power), 25 EP (power)

## SN74CB3Q3257PWR_TSSOP16
designator U?
pins: 1 S (in), 2 1B1 (io), 3 1B2 (io), 4 1A (io), 5 2B1 (io), 6 2B2 (io), 7 2A (io), 8 GND (power), 9 3A (io), 10 3B2 (io), 11 3B1 (io), 12 4A (io), 13 4B2 (io), 14 4B1 (io), 15 ~{OE} (in), 16 VCC (power)

## SN74LVC1G04DCKR_SC70-5
designator U?
pins: 1 NC, 2 A (in), 3 GND (power), 4 Y (out), 5 VCC (power)

## SN74LVC1G08DBVRE4_SOT23-5
designator U?
pins: 1 A (in), 2 B (in), 3 GND (power), 4 Y (out), 5 VCC (power)

## SN74LVC1G08DBVRE4_SOT23-5_Dup1
designator U?
pins: 1 A (in), 2 B (in), 3 GND (power), 4 Y (out), 5 VCC (power)

## SN74LVC1G11DCKR_SC70-6
designator U?
pins: 1 A (in), 2 GND (power), 3 B (in), 4 Y (out), 5 VCC (power), 6 C (in)

## SN74LVC1G17DCKR_SC70-5
designator U?
pins: 1 NC, 2 A (in), 3 GND (power), 4 Y (out), 5 VCC (power)

## SN74LVC1G32DBVR_SOT23-5
designator U?
pins: 1 A (in), 2 B (in), 3 GND (power), 4 Y (out), 5 VCC (power)

## SN74LVC3G17DCUR_VSSOP8
designator U?
pins: 1 1A (in), 2 3Y (out), 3 2A (in), 4 GND (power), 5 2Y (out), 6 3A (in), 7 1Y (out), 8 VCC (power)

## SW3_B12JV
designator SW?
pins: 1, 2, 3, SH1, SH2

## SW4_SKHUPLE010
designator SW?
pins: 1, 2, 3, 4, 5 GND (power)

## SW8_218-8LPSTR
designator SW?
DIP,Straight,0.4 VA@24V,6 position,DIP Switches, Half Pitch, Low Profile; Part No (Manufacturer): GDH06S04 (Tyco Electronics); Compliance: RoHS; Component Name: DIP Sw_GDH06S04; Operating Temp Range: -30 to 85C; Type: DIP
footprint SW6_1P27_8p75x6p0_GDH
pins: 1, 2, 3, 4, 5, 6, 7, 8, 9, 10, 11, 12, 13, 14, 15, 16
text: ON

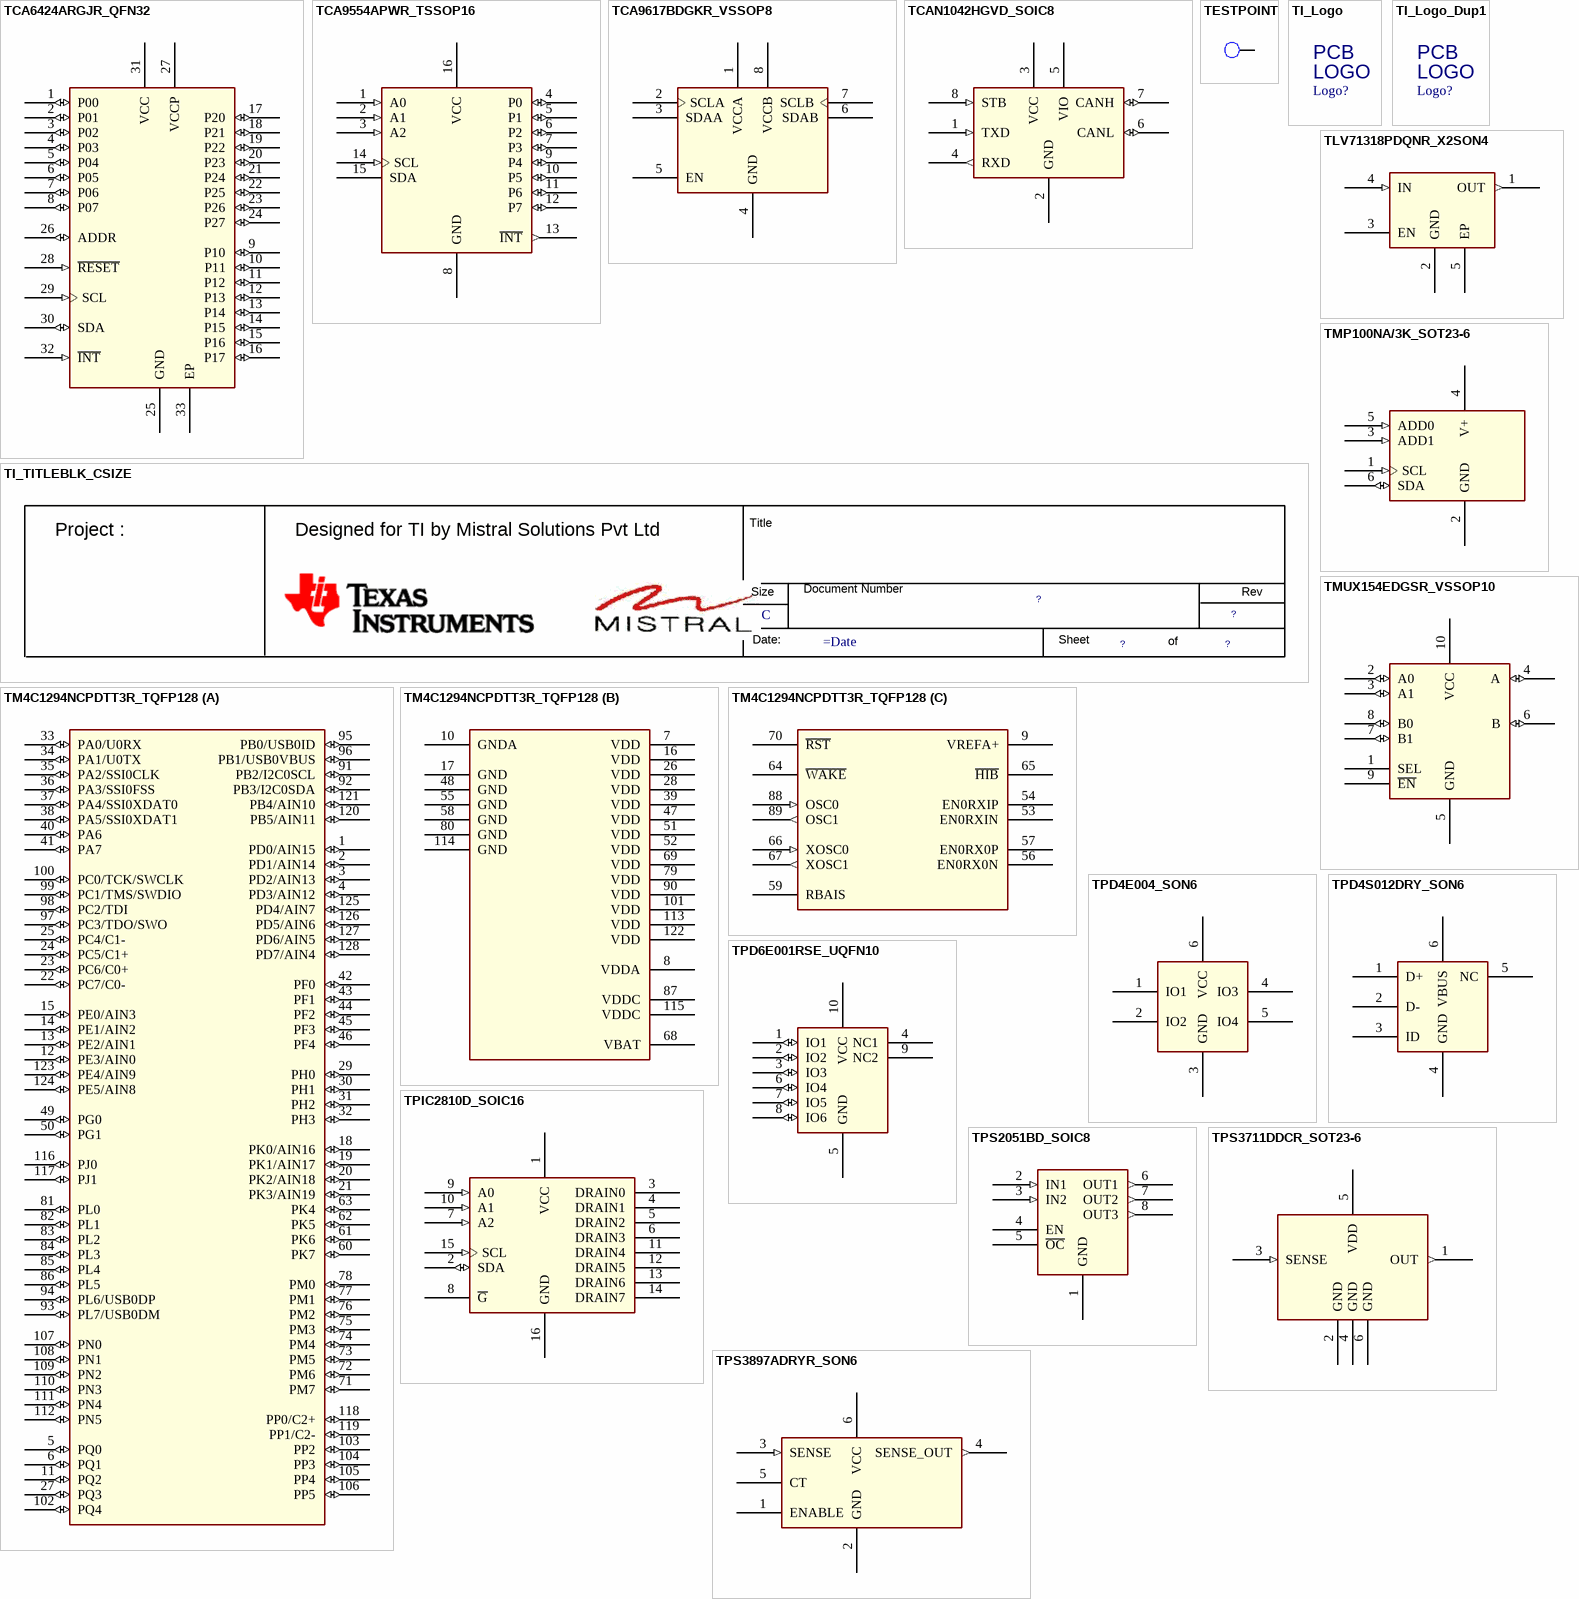
[diagram p5: symbols TCA6424ARGJR_QFN32 to TPS3897ADRYR_SON6]

## TCA6424ARGJR_QFN32
designator U?
pins: 1 P00 (io), 2 P01 (io), 3 P02 (io), 4 P03 (io), 5 P04 (io), 6 P05 (io), 7 P06 (io), 8 P07 (io), 9 P10 (io), 10 P11 (io), 11 P12 (io), 12 P13 (io), 13 P14 (io), 14 P15 (io), 15 P16 (io), 16 P17 (io), 17 P20 (io), 18 P21 (io), 19 P22 (io), 20 P23 (io), 21 P24 (io), 22 P25 (io), 23 P26 (io), 24 P27 (io), 25 GND (power), 26 ADDR (io), 27 VCCP (power), 28 ~{RESET} (in), 29 SCL (in), 30 SDA (io), 31 VCC (power), 32 ~{INT} (in), 33 EP (power)

## TCA9554APWR_TSSOP16
designator U?
pins: 1 A0 (in), 2 A1 (in), 3 A2 (in), 4 P0 (io), 5 P1 (io), 6 P2 (io), 7 P3 (io), 8 GND (power), 9 P4 (io), 10 P5 (io), 11 P6 (io), 12 P7 (io), 13 ~{INT} (out), 14 SCL (in), 15 SDA (hiz), 16 VCC (power)

## TCA9617BDGKR_VSSOP8
designator U?
pins: 1 VCCA (power), 2 SCLA, 3 SDAA, 4 GND (power), 5 EN, 6 SDAB, 7 SCLB, 8 VCCB (power)

## TCAN1042HGVD_SOIC8
designator U?
pins: 1 TXD (in), 2 GND (power), 3 VCC (power), 4 RXD (out), 5 VIO (power), 6 CANL (io), 7 CANH (io), 8 STB (in)

## TESTPOINT
designator TP?
pins: 1 TP

## TI_Logo
designator Logo?  (value not drawn)
footprint TI_Stacked_Overlay_Small
text: PCB; LOGO

## TI_Logo_Dup1
designator Logo?  (value not drawn)
footprint TI_Stacked_Overlay_Small
text: PCB; LOGO

## TI_TITLEBLK_CSIZE
designator *  Page Size: C  (hidden comment: *)  (graphical)
Issue: 1.0; Page Create Date: March  8, 1995; Doc: ?; RevCode: ?; Page Number: ?; Page Count: ?; Page Modify Date: =Date
text: Title; Project :; Designed for TI by Mistral Solutions Pvt Ltd; Document Number; Size; Rev; Date:; Sheet; of

## TLV71318PDQNR_X2SON4
designator U?
pins: 1 OUT (out), 2 GND (power), 3 EN, 4 IN (in), 5 EP (power)

## TM4C1294NCPDTT3R_TQFP128
designator U?
part A pins: 1 PD0/AIN15 (io), 2 PD1/AIN14 (io), 3 PD2/AIN13 (io), 4 PD3/AIN12 (io), 5 PQ0 (io), 6 PQ1 (io), 11 PQ2 (io), 12 PE3/AIN0 (io), 13 PE2/AIN1 (io), 14 PE1/AIN2 (io), 15 PE0/AIN3 (io), 18 PK0/AIN16 (io), 19 PK1/AIN17 (io), 20 PK2/AIN18 (io), 21 PK3/AIN19 (io), 22 PC7/C0- (io), 23 PC6/C0+ (io), 24 PC5/C1+ (io), 25 PC4/C1- (io), 27 PQ3 (io), 29 PH0 (io), 30 PH1 (io), 31 PH2 (io), 32 PH3 (io), 33 PA0/U0RX (io), 34 PA1/U0TX (io), 35 PA2/SSI0CLK (io), 36 PA3/SSI0FSS (io), 37 PA4/SSI0XDAT0 (io), 38 PA5/SSI0XDAT1 (io), 40 PA6 (io), 41 PA7 (io), 42 PF0 (io), 43 PF1 (io), 44 PF2 (io), 45 PF3 (io), 46 PF4 (io), 49 PG0 (io), 50 PG1 (io), 60 PK7 (io), 61 PK6 (io), 62 PK5 (io), 63 PK4 (io), 71 PM7 (io), 72 PM6 (io), 73 PM5 (io), 74 PM4 (io), 75 PM3 (io), 76 PM2 (io), 77 PM1 (io), 78 PM0 (io), 81 PL0 (io), 82 PL1 (io), 83 PL2 (io), 84 PL3 (io), 85 PL4 (io), 86 PL5 (io), 91 PB2/I2C0SCL (io), 92 PB3/I2C0SDA (io), 93 PL7/USB0DM (io), 94 PL6/USB0DP (io), 95 PB0/USB0ID (io), 96 PB1/USB0VBUS (io), 97 PC3/TDO/SWO (io), 98 PC2/TDI (io), 99 PC1/TMS/SWDIO (io), 100 PC0/TCK/SWCLK (io), 102 PQ4 (io), 103 PP2 (io), 104 PP3 (io), 105 PP4 (io), 106 PP5 (io), 107 PN0 (io), 108 PN1 (io), 109 PN2 (io), 110 PN3 (io), 111 PN4 (io), 112 PN5 (io), 116 PJ0 (io), 117 PJ1 (io), 118 PP0/C2+ (io), 119 PP1/C2- (io), 120 PB5/AIN11 (io), 121 PB4/AIN10 (io), 123 PE4/AIN9 (io), 124 PE5/AIN8 (io), 125 PD4/AIN7 (io), 126 PD5/AIN6 (io), 127 PD6/AIN5 (io), 128 PD7/AIN4 (io)
part B pins: 7 VDD (power), 8 VDDA (power), 10 GNDA (power), 16 VDD (power), 17 GND (power), 26 VDD (power), 28 VDD (power), 39 VDD (power), 47 VDD (power), 48 GND (power), 51 VDD (power), 52 VDD (power), 55 GND (power), 58 GND (power), 68 VBAT (power), 69 VDD (power), 79 VDD (power), 80 GND (power), 87 VDDC (power), 90 VDD (power), 101 VDD (power), 113 VDD (power), 114 GND (power), 115 VDDC (power), 122 VDD (power)
part C pins: 9 VREFA+, 53 EN0RXIN, 54 EN0RXIP, 56 EN0RX0N, 57 EN0RX0P, 59 RBAIS, 64 ~{WAKE}, 65 ~{HIB}, 66 XOSC0 (in), 67 XOSC1 (out), 70 ~{RST}, 88 OSC0 (in), 89 OSC1 (out)

## TMP100NA/3K_SOT23-6
designator U?
pins: 1 SCL (in), 2 GND (power), 3 ADD1 (in), 4 V+ (power), 5 ADD0 (in), 6 SDA (io)

## TMUX154EDGSR_VSSOP10
designator U?
pins: 1 SEL, 2 A0 (io), 3 A1 (io), 4 A (io), 5 GND (power), 6 B (io), 7 B1 (io), 8 B0 (io), 9 ~{EN}, 10 VCC (power)

## TPD4E004_SON6
designator U?
pins: 1 IO1, 2 IO2, 3 GND (power), 4 IO3, 5 IO4, 6 VCC (power)

## TPD4S012DRY_SON6
designator U?
pins: 1 D+, 2 D-, 3 ID, 4 GND (power), 5 NC, 6 VBUS (power)

## TPD6E001RSE_UQFN10
designator U?
pins: 1 IO1 (io), 2 IO2 (io), 3 IO3 (io), 4 NC1, 5 GND (power), 6 IO4 (io), 7 IO5 (io), 8 IO6 (io), 9 NC2, 10 VCC (power)

## TPIC2810D_SOIC16
designator U?
pins: 1 VCC (power), 2 SDA (io), 3 DRAIN0, 4 DRAIN1, 5 DRAIN2, 6 DRAIN3, 7 A2 (in), 8 ~{G}, 9 A0 (in), 10 A1 (in), 11 DRAIN4, 12 DRAIN5, 13 DRAIN6, 14 DRAIN7, 15 SCL (in), 16 GND (power)

## TPS2051BD_SOIC8
designator U?
pins: 1 GND (power), 2 IN1 (in), 3 IN2 (in), 4 EN, 5 ~{OC}, 6 OUT1 (out), 7 OUT2 (out), 8 OUT3 (out)

## TPS3711DDCR_SOT23-6
designator U?
pins: 1 OUT (out), 2 GND (power), 3 SENSE (in), 4 GND (power), 5 VDD (power), 6 GND (power)

## TPS3897ADRYR_SON6
designator U?
pins: 1 ENABLE, 2 GND (power), 3 SENSE (in), 4 SENSE_OUT (out), 5 CT, 6 VCC (power)

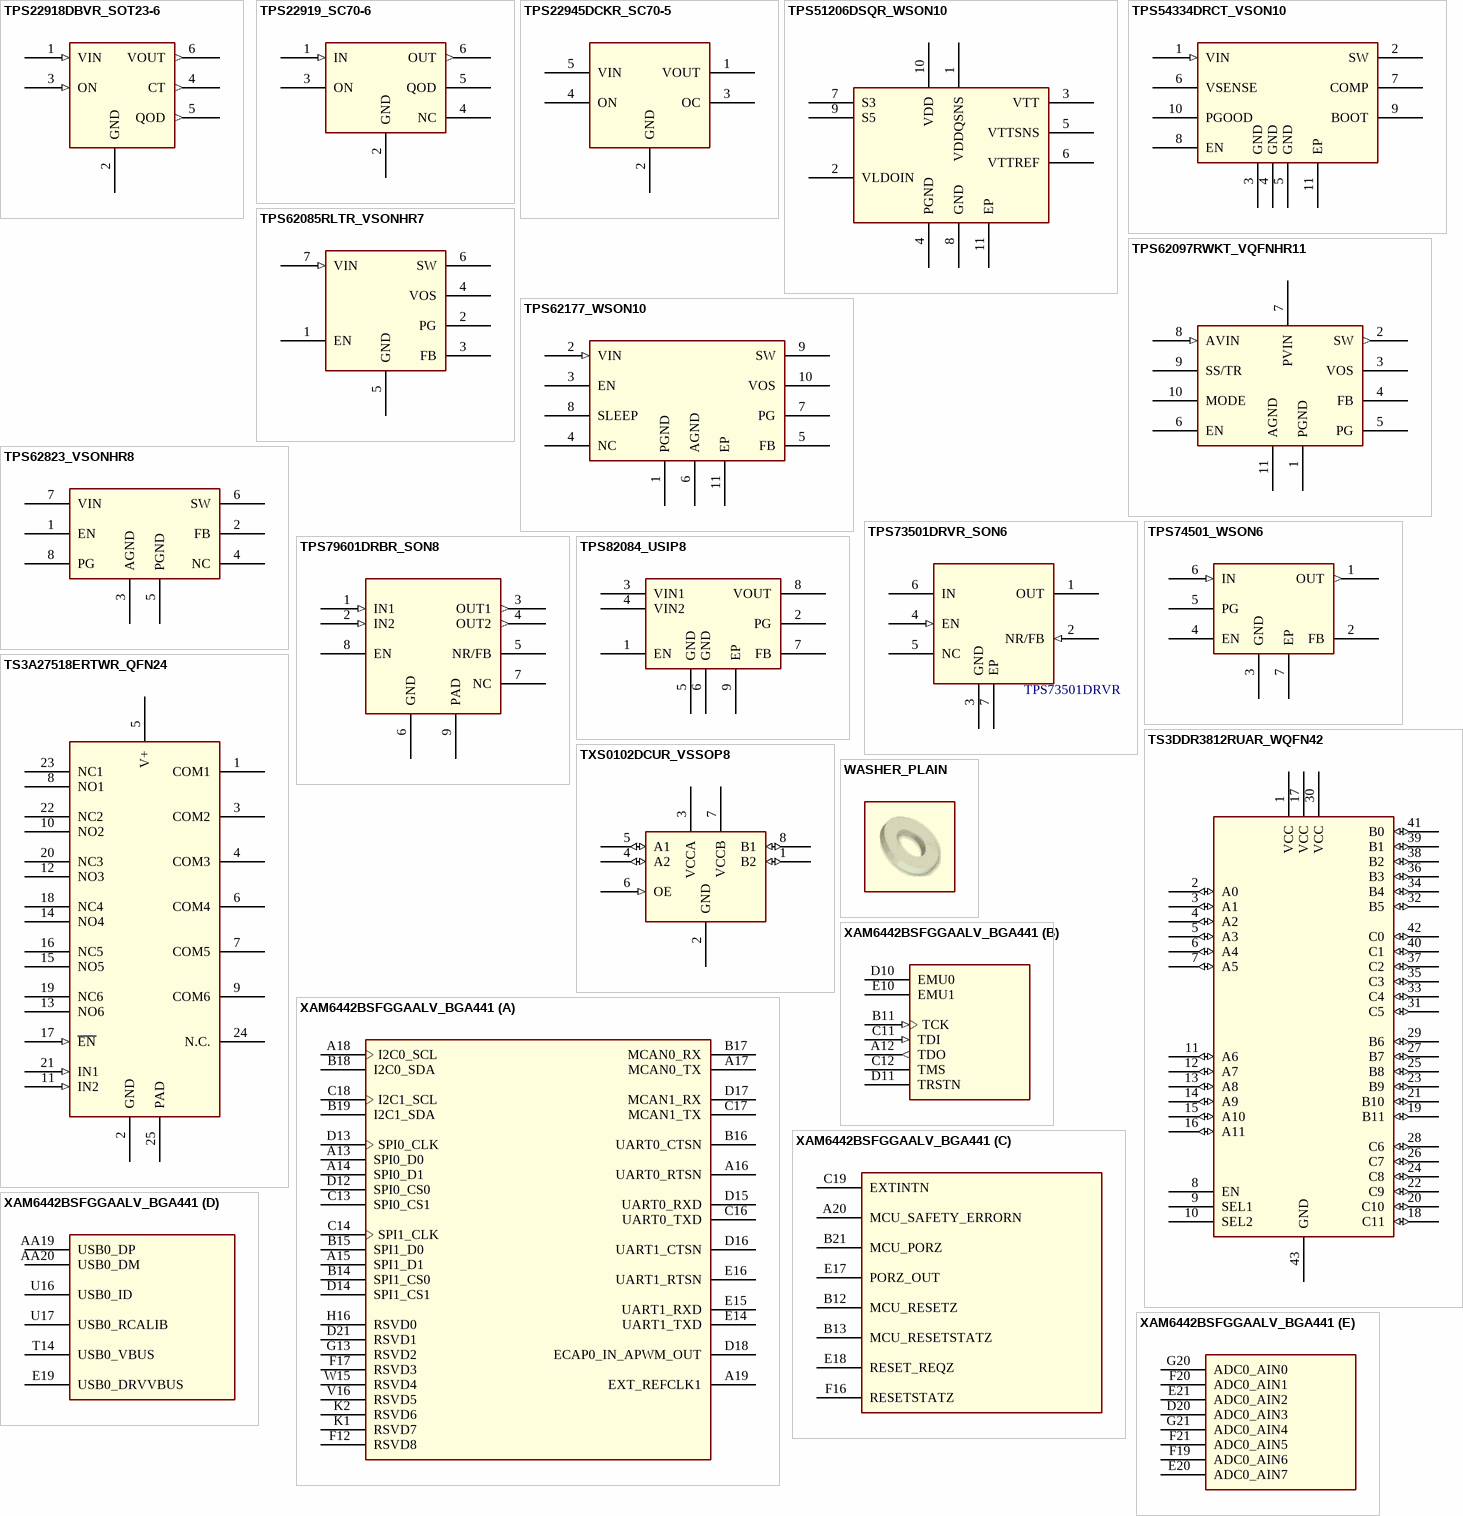
[diagram p6: symbols TPS22918DBVR_SOT23-6 to XAM6442BSFGGAALV_BGA441]

## TPS22918DBVR_SOT23-6
designator U?
pins: 1 VIN (in), 2 GND (power), 3 ON (in), 4 CT (out), 5 QOD (out), 6 VOUT (out)

## TPS22919_SC70-6
designator U?
pins: 1 IN (in), 2 GND (power), 3 ON, 4 NC, 5 QOD, 6 OUT (out)

## TPS22945DCKR_SC70-5
designator U?
pins: 1 VOUT, 2 GND (power), 3 OC, 4 ON, 5 VIN

## TPS51206DSQR_WSON10
designator U?
pins: 1 VDDQSNS (power), 2 VLDOIN, 3 VTT, 4 PGND (power), 5 VTTSNS, 6 VTTREF, 7 S3, 8 GND (power), 9 S5, 10 VDD (power), 11 EP (power)

## TPS54334DRCT_VSON10
designator U?
pins: 1 VIN (in), 2 SW, 3 GND (power), 4 GND (power), 5 GND (power), 6 VSENSE, 7 COMP, 8 EN, 9 BOOT, 10 PGOOD, 11 EP (power)

## TPS62085RLTR_VSONHR7
designator U?
pins: 1 EN, 2 PG, 3 FB, 4 VOS, 5 GND (power), 6 SW, 7 VIN (in)

## TPS62097RWKT_VQFNHR11
designator U?
pins: 1 PGND (power), 2 SW (out), 3 VOS, 4 FB, 5 PG, 6 EN, 7 PVIN (power), 8 AVIN (in), 9 SS/TR, 10 MODE, 11 AGND (power)

## TPS62177_WSON10
designator U?
pins: 1 PGND (power), 2 VIN (in), 3 EN, 4 NC, 5 FB, 6 AGND (power), 7 PG, 8 SLEEP, 9 SW, 10 VOS, 11 EP (power)

## TPS62823_VSONHR8
designator U?
pins: 1 EN, 2 FB, 3 AGND (power), 4 NC, 5 PGND (power), 6 SW, 7 VIN, 8 PG

## TPS73501DRVR_SON6
designator U?, comment TPS73501DRVR
pins: 1 OUT (power), 2 NR/FB (in), 3 GND (power), 4 EN (in), 5 NC, 6 IN (power), 7 EP (power)

## TPS74501_WSON6
designator U?
pins: 1 OUT (out), 2 FB, 3 GND (power), 4 EN, 5 PG, 6 IN (in), 7 EP (power)

## TPS79601DRBR_SON8
designator U?
pins: 1 IN1 (in), 2 IN2 (in), 3 OUT1 (out), 4 OUT2 (out), 5 NR/FB, 6 GND (power), 7 NC, 8 EN, 9 PAD (power)

## TPS82084_USIP8
designator U?
pins: 1 EN, 2 PG, 3 VIN1, 4 VIN2, 5 GND (power), 6 GND (power), 7 FB, 8 VOUT, 9 EP (power)

## TS3A27518ERTWR_QFN24
designator U?
pins: 1 COM1, 2 GND (power), 3 COM2, 4 COM3, 5 V+ (power), 6 COM4, 7 COM5, 8 NO1, 9 COM6, 10 NO2, 11 IN2 (in), 12 NO3, 13 NO6, 14 NO4, 15 NO5, 16 NC5, 17 ~{EN} (in), 18 NC4, 19 NC6, 20 NC3, 21 IN1 (in), 22 NC2, 23 NC1, 24 N.C., 25 PAD (power)

## TS3DDR3812RUAR_WQFN42
designator U?
pins: 1 VCC (power), 2 A0 (io), 3 A1 (io), 4 A2 (io), 5 A3 (io), 6 A4 (io), 7 A5 (io), 8 EN, 9 SEL1, 10 SEL2, 11 A6 (io), 12 A7 (io), 13 A8 (io), 14 A9 (io), 15 A10 (io), 16 A11 (io), 17 VCC (power), 18 C11 (io), 19 B11 (io), 20 C10 (io), 21 B10 (io), 22 C9 (io), 23 B9 (io), 24 C8 (io), 25 B8 (io), 26 C7 (io), 27 B7 (io), 28 C6 (io), 29 B6 (io), 30 VCC (power), 31 C5 (io), 32 B5 (io), 33 C4 (io), 34 B4 (io), 35 C3 (io), 36 B3 (io), 37 C2 (io), 38 B2 (io), 39 B1 (io), 40 C1 (io), 41 B0 (io), 42 C0 (io), 43 GND (power)

## TXS0102DCUR_VSSOP8
designator U?
pins: 1 B2 (io), 2 GND (power), 3 VCCA (power), 4 A2 (io), 5 A1 (io), 6 OE (in), 7 VCCB (power), 8 B1 (io)

## WASHER_PLAIN
designator ACC?

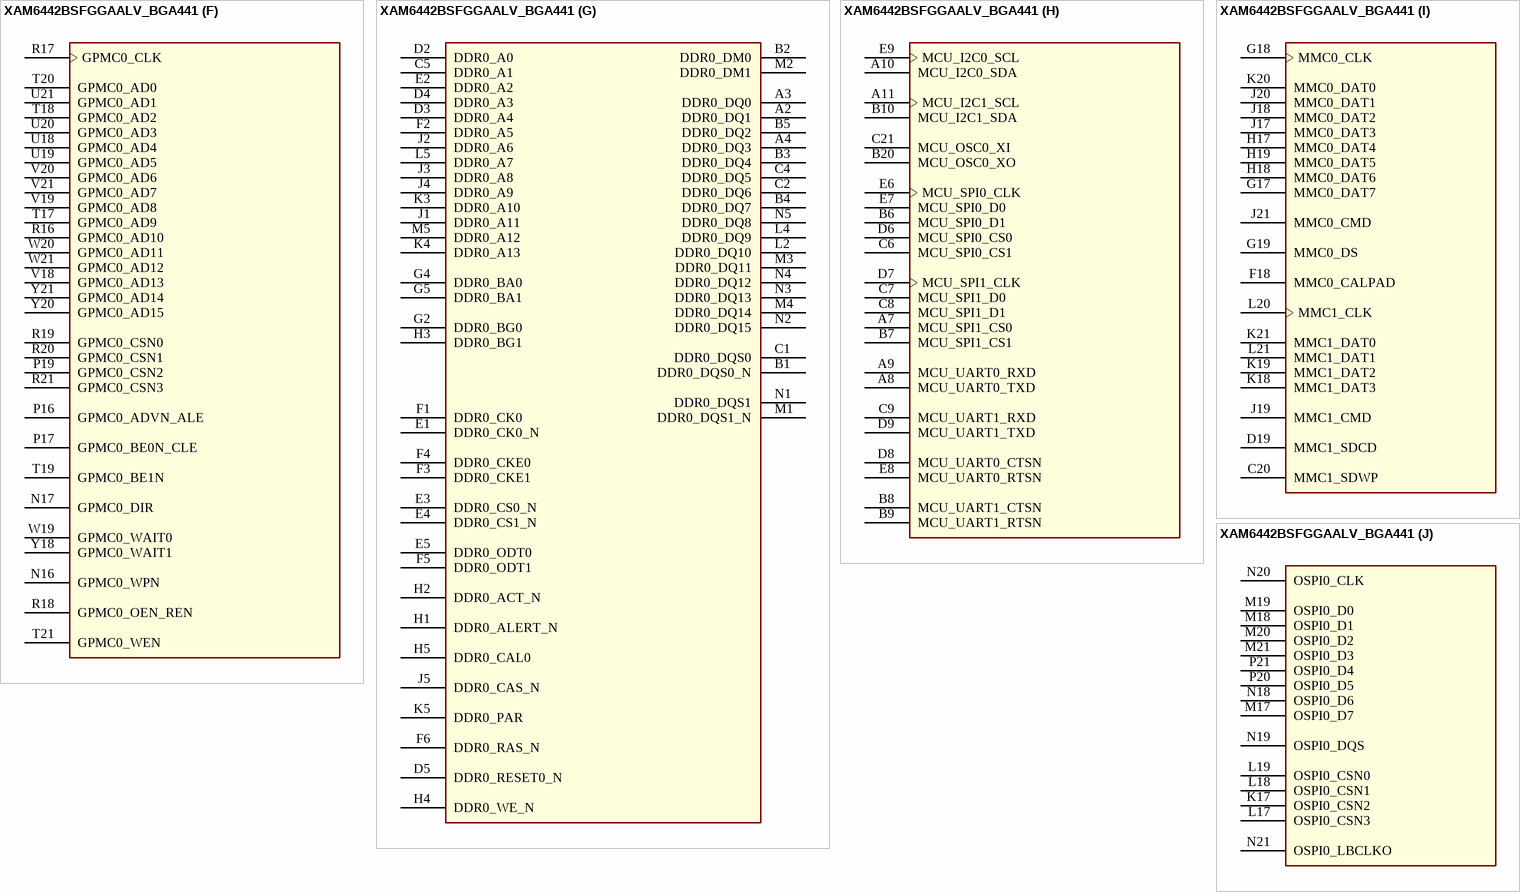
[diagram p7: symbol XAM6442BSFGGAALV_BGA441]

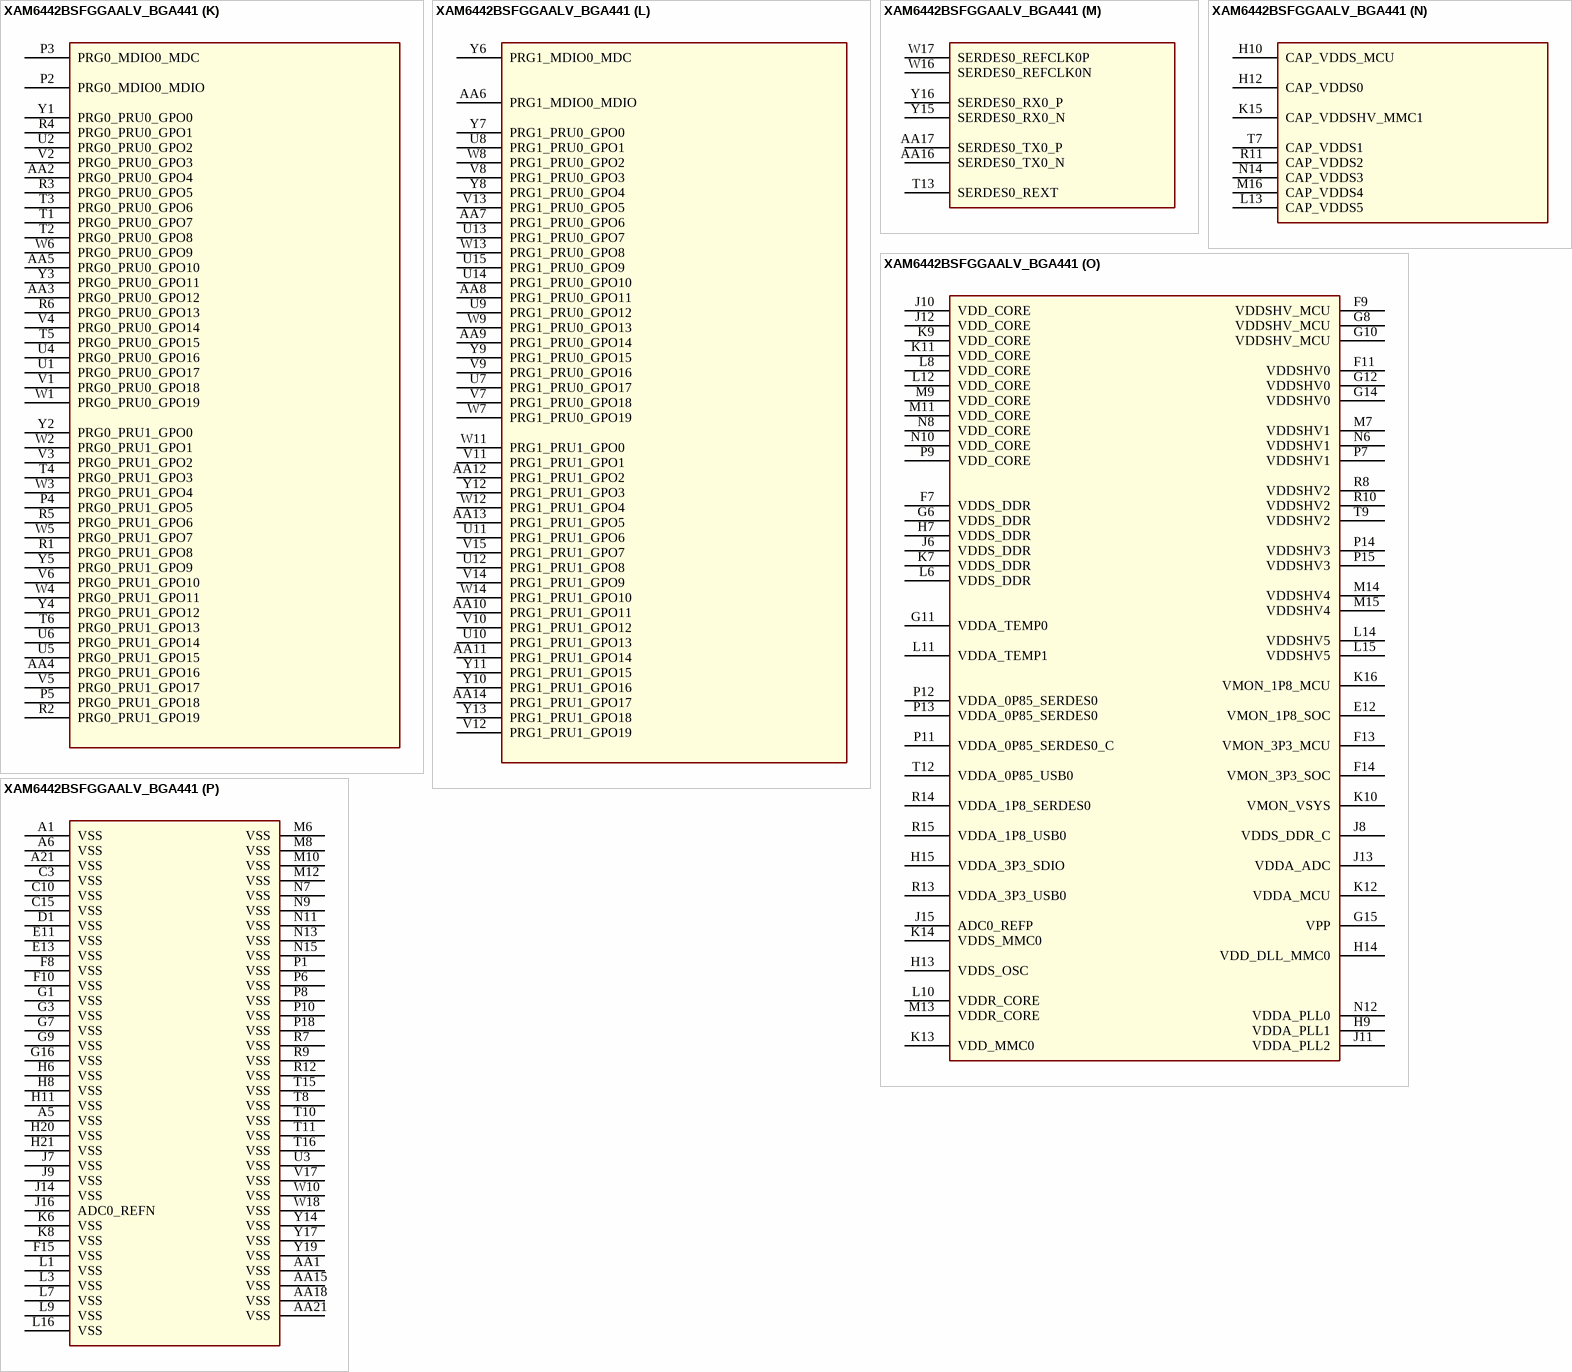
[diagram p8: symbol XAM6442BSFGGAALV_BGA441]

## XAM6442BSFGGAALV_BGA441
designator U?
part A pins: A13 SPI0_D0, A14 SPI0_D1, A15 SPI1_D1, A16 UART0_RTSN, A17 MCAN0_TX, A18 I2C0_SCL, A19 EXT_REFCLK1, B14 SPI1_CS0, B15 SPI1_D0, B16 UART0_CTSN, B17 MCAN0_RX, B18 I2C0_SDA, B19 I2C1_SDA, C13 SPI0_CS1, C14 SPI1_CLK, C16 UART0_TXD, C17 MCAN1_TX, C18 I2C1_SCL, D12 SPI0_CS0, D13 SPI0_CLK, D14 SPI1_CS1, D15 UART0_RXD, D16 UART1_CTSN, D17 MCAN1_RX, D18 ECAP0_IN_APWM_OUT, D21 RSVD1, E14 UART1_TXD, E15 UART1_RXD, E16 UART1_RTSN, F12 RSVD8, F17 RSVD3, G13 RSVD2, H16 RSVD0, K1 RSVD7, K2 RSVD6, V16 RSVD5, W15 RSVD4
part B pins: A12 TDO (out), B11 TCK (in), C11 TDI (in), C12 TMS, D10 EMU0, D11 TRSTN, E10 EMU1
part C pins: A20 MCU_SAFETY_ERRORN, B12 MCU_RESETZ, B13 MCU_RESETSTATZ, B21 MCU_PORZ, C19 EXTINTN, E17 PORZ_OUT, E18 RESET_REQZ, F16 RESETSTATZ
part D pins: AA19 USB0_DP, AA20 USB0_DM, E19 USB0_DRVVBUS, T14 USB0_VBUS, U16 USB0_ID, U17 USB0_RCALIB
part E pins: D20 ADC0_AIN3, E20 ADC0_AIN7, E21 ADC0_AIN2, F19 ADC0_AIN6, F20 ADC0_AIN1, F21 ADC0_AIN5, G20 ADC0_AIN0, G21 ADC0_AIN4
part F pins: N16 GPMC0_WPN, N17 GPMC0_DIR, P16 GPMC0_ADVN_ALE, P17 GPMC0_BE0N_CLE, P19 GPMC0_CSN2, R16 GPMC0_AD10, R17 GPMC0_CLK, R18 GPMC0_OEN_REN, R19 GPMC0_CSN0, R20 GPMC0_CSN1, R21 GPMC0_CSN3, T17 GPMC0_AD9, T18 GPMC0_AD2, T19 GPMC0_BE1N, T20 GPMC0_AD0, T21 GPMC0_WEN, U18 GPMC0_AD4, U19 GPMC0_AD5, U20 GPMC0_AD3, U21 GPMC0_AD1, V18 GPMC0_AD13, V19 GPMC0_AD8, V20 GPMC0_AD6, V21 GPMC0_AD7, W19 GPMC0_WAIT0, W20 GPMC0_AD11, W21 GPMC0_AD12, Y18 GPMC0_WAIT1, Y20 GPMC0_AD15, Y21 GPMC0_AD14
part G pins: A2 DDR0_DQ1, A3 DDR0_DQ0, A4 DDR0_DQ3, B1 DDR0_DQS0_N, B2 DDR0_DM0, B3 DDR0_DQ4, B4 DDR0_DQ7, B5 DDR0_DQ2, C1 DDR0_DQS0, C2 DDR0_DQ6, C4 DDR0_DQ5, C5 DDR0_A1, D2 DDR0_A0, D3 DDR0_A4, D4 DDR0_A3, D5 DDR0_RESET0_N, E1 DDR0_CK0_N, E2 DDR0_A2, E3 DDR0_CS0_N, E4 DDR0_CS1_N, E5 DDR0_ODT0, F1 DDR0_CK0, F2 DDR0_A5, F3 DDR0_CKE1, F4 DDR0_CKE0, F5 DDR0_ODT1, F6 DDR0_RAS_N, G2 DDR0_BG0, G4 DDR0_BA0, G5 DDR0_BA1, H1 DDR0_ALERT_N, H2 DDR0_ACT_N, H3 DDR0_BG1, H4 DDR0_WE_N, H5 DDR0_CAL0, J1 DDR0_A11, J2 DDR0_A6, J3 DDR0_A8, J4 DDR0_A9, J5 DDR0_CAS_N, K3 DDR0_A10, K4 DDR0_A13, K5 DDR0_PAR, L2 DDR0_DQ10, L4 DDR0_DQ9, L5 DDR0_A7, M1 DDR0_DQS1_N, M2 DDR0_DM1, M3 DDR0_DQ11, M4 DDR0_DQ14, M5 DDR0_A12, N1 DDR0_DQS1, N2 DDR0_DQ15, N3 DDR0_DQ13, N4 DDR0_DQ12, N5 DDR0_DQ8
part H pins: A7 MCU_SPI1_CS0, A8 MCU_UART0_TXD, A9 MCU_UART0_RXD, A10 MCU_I2C0_SDA, A11 MCU_I2C1_SCL, B6 MCU_SPI0_D1, B7 MCU_SPI1_CS1, B8 MCU_UART1_CTSN, B9 MCU_UART1_RTSN, B10 MCU_I2C1_SDA, B20 MCU_OSC0_XO, C6 MCU_SPI0_CS1, C7 MCU_SPI1_D0, C8 MCU_SPI1_D1, C9 MCU_UART1_RXD, C21 MCU_OSC0_XI, D6 MCU_SPI0_CS0, D7 MCU_SPI1_CLK, D8 MCU_UART0_CTSN, D9 MCU_UART1_TXD, E6 MCU_SPI0_CLK, E7 MCU_SPI0_D0, E8 MCU_UART0_RTSN, E9 MCU_I2C0_SCL
part I pins: C20 MMC1_SDWP, D19 MMC1_SDCD, F18 MMC0_CALPAD, G17 MMC0_DAT7, G18 MMC0_CLK, G19 MMC0_DS, H17 MMC0_DAT4, H18 MMC0_DAT6, H19 MMC0_DAT5, J17 MMC0_DAT3, J18 MMC0_DAT2, J19 MMC1_CMD, J20 MMC0_DAT1, J21 MMC0_CMD, K18 MMC1_DAT3, K19 MMC1_DAT2, K20 MMC0_DAT0, K21 MMC1_DAT0, L20 MMC1_CLK, L21 MMC1_DAT1
part J pins: K17 OSPI0_CSN2, L17 OSPI0_CSN3, L18 OSPI0_CSN1, L19 OSPI0_CSN0, M17 OSPI0_D7, M18 OSPI0_D1, M19 OSPI0_D0, M20 OSPI0_D2, M21 OSPI0_D3, N18 OSPI0_D6, N19 OSPI0_DQS, N20 OSPI0_CLK, N21 OSPI0_LBCLKO, P20 OSPI0_D5, P21 OSPI0_D4
part K pins: AA2 PRG0_PRU0_GPO4, AA3 PRG0_PRU0_GPO12, AA4 PRG0_PRU1_GPO16, AA5 PRG0_PRU0_GPO10, P2 PRG0_MDIO0_MDIO, P3 PRG0_MDIO0_MDC, P4 PRG0_PRU1_GPO5, P5 PRG0_PRU1_GPO18, R1 PRG0_PRU1_GPO8, R2 PRG0_PRU1_GPO19, R3 PRG0_PRU0_GPO5, R4 PRG0_PRU0_GPO1, R5 PRG0_PRU1_GPO6, R6 PRG0_PRU0_GPO13, T1 PRG0_PRU0_GPO7, T2 PRG0_PRU0_GPO8, T3 PRG0_PRU0_GPO6, T4 PRG0_PRU1_GPO3, T5 PRG0_PRU0_GPO15, T6 PRG0_PRU1_GPO13, U1 PRG0_PRU0_GPO17, U2 PRG0_PRU0_GPO2, U4 PRG0_PRU0_GPO16, U5 PRG0_PRU1_GPO15, U6 PRG0_PRU1_GPO14, V1 PRG0_PRU0_GPO18, V2 PRG0_PRU0_GPO3, V3 PRG0_PRU1_GPO2, V4 PRG0_PRU0_GPO14, V5 PRG0_PRU1_GPO17, V6 PRG0_PRU1_GPO10, W1 PRG0_PRU0_GPO19, W2 PRG0_PRU1_GPO1, W3 PRG0_PRU1_GPO4, W4 PRG0_PRU1_GPO11, W5 PRG0_PRU1_GPO7, W6 PRG0_PRU0_GPO9, Y1 PRG0_PRU0_GPO0, Y2 PRG0_PRU1_GPO0, Y3 PRG0_PRU0_GPO11, Y4 PRG0_PRU1_GPO12, Y5 PRG0_PRU1_GPO9
part L pins: AA6 PRG1_MDIO0_MDIO, AA7 PRG1_PRU0_GPO6, AA8 PRG1_PRU0_GPO11, AA9 PRG1_PRU0_GPO14, AA10 PRG1_PRU1_GPO11, AA11 PRG1_PRU1_GPO14, AA12 PRG1_PRU1_GPO2, AA13 PRG1_PRU1_GPO5, AA14 PRG1_PRU1_GPO17, U7 PRG1_PRU0_GPO17, U8 PRG1_PRU0_GPO1, U9 PRG1_PRU0_GPO12, U10 PRG1_PRU1_GPO13, U11 PRG1_PRU1_GPO6, U12 PRG1_PRU1_GPO8, U13 PRG1_PRU0_GPO7, U14 PRG1_PRU0_GPO10, U15 PRG1_PRU0_GPO9, V7 PRG1_PRU0_GPO18, V8 PRG1_PRU0_GPO3, V9 PRG1_PRU0_GPO16, V10 PRG1_PRU1_GPO12, V11 PRG1_PRU1_GPO1, V12 PRG1_PRU1_GPO19, V13 PRG1_PRU0_GPO5, V14 PRG1_PRU1_GPO9, V15 PRG1_PRU1_GPO7, W7 PRG1_PRU0_GPO19, W8 PRG1_PRU0_GPO2, W9 PRG1_PRU0_GPO13, W11 PRG1_PRU1_GPO0, W12 PRG1_PRU1_GPO4, W13 PRG1_PRU0_GPO8, W14 PRG1_PRU1_GPO10, Y6 PRG1_MDIO0_MDC, Y7 PRG1_PRU0_GPO0, Y8 PRG1_PRU0_GPO4, Y9 PRG1_PRU0_GPO15, Y10 PRG1_PRU1_GPO16, Y11 PRG1_PRU1_GPO15, Y12 PRG1_PRU1_GPO3, Y13 PRG1_PRU1_GPO18
part M pins: AA16 SERDES0_TX0_N, AA17 SERDES0_TX0_P, T13 SERDES0_REXT, W16 SERDES0_REFCLK0N, W17 SERDES0_REFCLK0P, Y15 SERDES0_RX0_N, Y16 SERDES0_RX0_P
part N pins: H10 CAP_VDDS_MCU (power), H12 CAP_VDDS0 (power), K15 CAP_VDDSHV_MMC1 (power), L13 CAP_VDDS5 (power), M16 CAP_VDDS4 (power), N14 CAP_VDDS3 (power), R11 CAP_VDDS2 (power), T7 CAP_VDDS1 (power)
part O pins: E12 VMON_1P8_SOC (power), F7 VDDS_DDR (power), F9 VDDSHV_MCU (power), F11 VDDSHV0 (power), F13 VMON_3P3_MCU (power), F14 VMON_3P3_SOC (power), G6 VDDS_DDR (power), G8 VDDSHV_MCU (power), G10 VDDSHV_MCU (power), G11 VDDA_TEMP0 (power), G12 VDDSHV0 (power), G14 VDDSHV0 (power), G15 VPP (power), H7 VDDS_DDR (power), H9 VDDA_PLL1 (power), H13 VDDS_OSC (power), H14 VDD_DLL_MMC0 (power), H15 VDDA_3P3_SDIO (power), J6 VDDS_DDR (power), J8 VDDS_DDR_C (power), J10 VDD_CORE (power), J11 VDDA_PLL2 (power), J12 VDD_CORE (power), J13 VDDA_ADC (power), J15 ADC0_REFP, K7 VDDS_DDR (power), K9 VDD_CORE (power), K10 VMON_VSYS (power), K11 VDD_CORE (power), K12 VDDA_MCU (power), K13 VDD_MMC0 (power), K14 VDDS_MMC0 (power), K16 VMON_1P8_MCU (power), L6 VDDS_DDR (power), L8 VDD_CORE (power), L10 VDDR_CORE (power), L11 VDDA_TEMP1 (power), L12 VDD_CORE (power), L14 VDDSHV5 (power), L15 VDDSHV5 (power), M7 VDDSHV1 (power), M9 VDD_CORE (power), M11 VDD_CORE (power), M13 VDDR_CORE (power), M14 VDDSHV4 (power), M15 VDDSHV4 (power), N6 VDDSHV1 (power), N8 VDD_CORE (power), N10 VDD_CORE (power), N12 VDDA_PLL0 (power), P7 VDDSHV1 (power), P9 VDD_CORE (power), P11 VDDA_0P85_SERDES0_C (power), P12 VDDA_0P85_SERDES0 (power), P13 VDDA_0P85_SERDES0 (power), P14 VDDSHV3 (power), P15 VDDSHV3 (power), R8 VDDSHV2 (power), R10 VDDSHV2 (power), R13 VDDA_3P3_USB0 (power), R14 VDDA_1P8_SERDES0 (power), R15 VDDA_1P8_USB0 (power), T9 VDDSHV2 (power), T12 VDDA_0P85_USB0 (power)
part P pins: A1 VSS (power), A5 VSS (power), A6 VSS (power), A21 VSS (power), AA1 VSS (power), AA15 VSS (power), AA18 VSS (power), AA21 VSS (power), C3 VSS (power), C10 VSS (power), C15 VSS (power), D1 VSS (power), E11 VSS (power), E13 VSS (power), F8 VSS (power), F10 VSS (power), F15 VSS (power), G1 VSS (power), G3 VSS (power), G7 VSS (power), G9 VSS (power), G16 VSS (power), H6 VSS (power), H8 VSS (power), H11 VSS (power), H20 VSS (power), H21 VSS (power), J7 VSS (power), J9 VSS (power), J14 VSS (power), J16 ADC0_REFN, K6 VSS (power), K8 VSS (power), L1 VSS (power), L3 VSS (power), L7 VSS (power), L9 VSS (power), L16 VSS (power), M6 VSS (power), M8 VSS (power), M10 VSS (power), M12 VSS (power), N7 VSS (power), N9 VSS (power), N11 VSS (power), N13 VSS (power), N15 VSS (power), P1 VSS (power), P6 VSS (power), P8 VSS (power), P10 VSS (power), P18 VSS (power), R7 VSS (power), R9 VSS (power), R12 VSS (power), T8 VSS (power), T10 VSS (power), T11 VSS (power), T15 VSS (power), T16 VSS (power), U3 VSS (power), V17 VSS (power), W10 VSS (power), W18 VSS (power), Y14 VSS (power), Y17 VSS (power), Y19 VSS (power)